# Altium integrated library Renesas Microcontroller R8C.IntLib: 628 symbols (part 1 of 33)
Pins are listed as number, name and electrical type; pins without a type are passive.

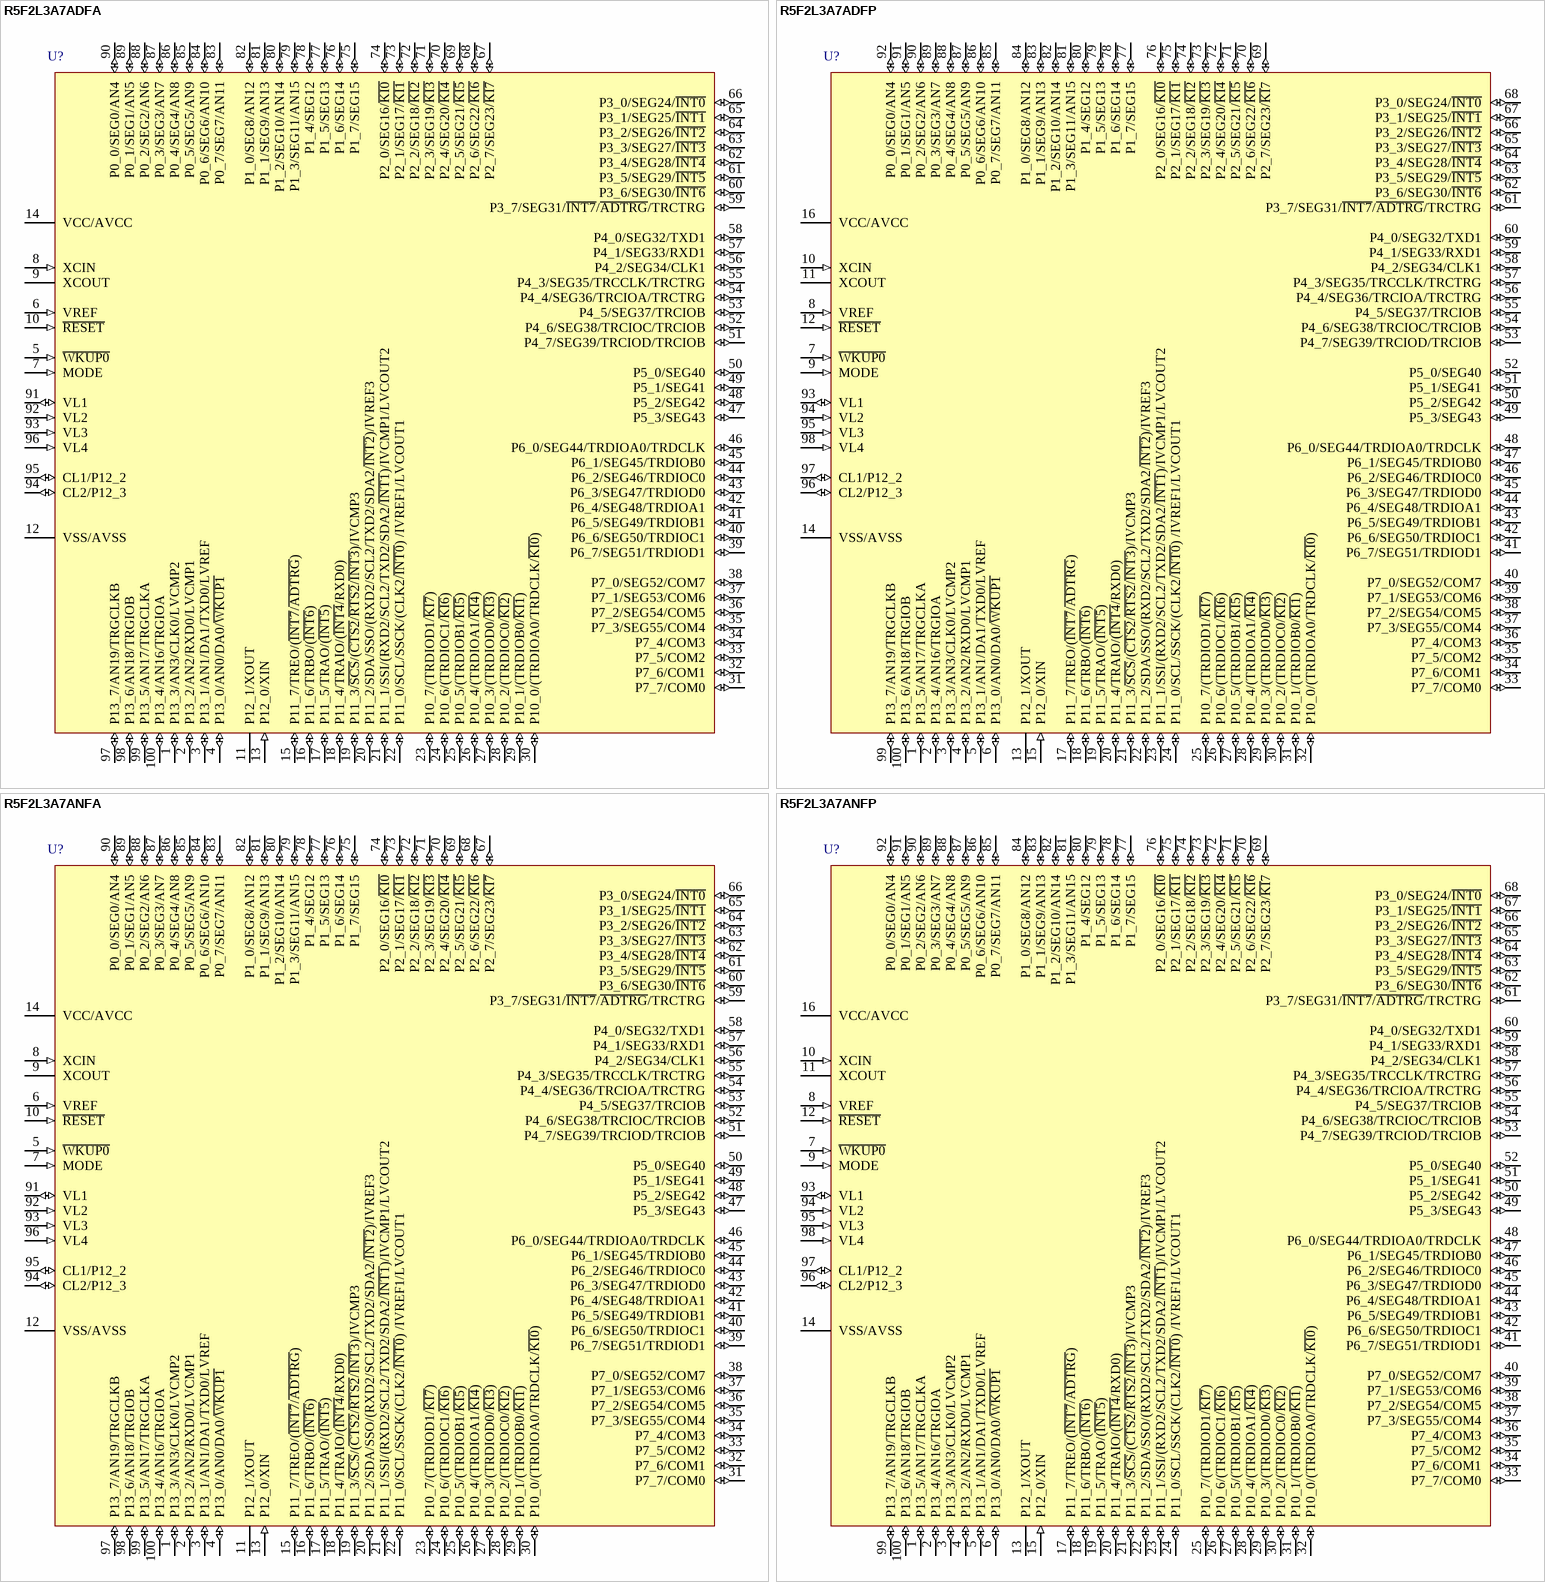
[diagram p0: symbols R5F2L3A7ADFA to R5F2L3A7ANFP]

## R5F2L3A7ADFA
designator U?
R8C/3AA Group Single Chip 16-Bit CMOS MCU, 48K ROM + 1K x4 Data Flash, 6K RAM, D Version; Published: 30-Oct-2009; DatasheetVersion: Rev.0.30, Jan-2009; PackageVersion: Nov-2006; PackageReference: PRQP0100JD-B; Publisher: Altium Limited; PackageDescription: 100-Pin Plastic Quad Flat Pack, 20 x 14 x 2.8 mm Body, 0.65 mm Pitch; Code_JEITA: P-QFP100-14x20-0.65; ComponentLink1Description: Manufacturer Link; ComponentLink1URL: http://sg.renesas.com/fmwk.jsp?cnt=r8c_family_landing.jsp&fp=/products/mpumcu/r8c_family/; ComponentLink2Description: Datasheet; ComponentLink2URL: http://documentation.renesas.com/eng/products/mpumcu/rej03b0243_r8cl35al35b_ds.pdf; ComponentLink3Description: Packaging Specification; ComponentLink3URL: http://sg.renesas.com/media/products/common_info/package/pdf/ic/code/prqp0100jd_b.pdf
footprint PRQP0100JD-B_N (QFP, 100-Leads, Body 20x14mm, Pitch 0.65mm, IPC Medium Density)
footprint PRQP0100JD-B_L (QFP, 100-Leads, Body 20x14mm, Pitch 0.65mm, IPC High Density)
footprint PRQP0100JD-B_M (QFP, 100-Leads, Body 20x14mm, Pitch 0.65mm, IPC Low Density)
pins: 1 P13_3/AN3/CLK0/LVCMP2 (io), 2 P13_2/AN2/RXD0/LVCMP1 (io), 3 P13_1/AN1/DA1/TXD0/LVREF (io), 4 P13_0/AN0/DA0/~{WKUP1} (io), 5 ~{WKUP0} (in), 6 VREF (in), 7 MODE (in), 8 XCIN (in), 9 XCOUT, 10 ~{RESET} (in), 11 P12_1/XOUT, 12 VSS/AVSS (power), 13 P12_0/XIN (in), 14 VCC/AVCC (power), 15 P11_7/TREO/(~{INT7}/~{ADTRG}) (io), 16 P11_6/TRBO/(~{INT6}) (io), 17 P11_5/TRAO/(~{INT5}) (io), 18 P11_4/TRAIO/(~{INT4}/RXD0) (io), 19 P11_3/~{SCS}/(~{CTS2}/~{RTS2}/~{INT3})/IVCMP3 (io), 20 P11_2/SDA/SSO/(RXD2/SCL2/TXD2/SDA2/~{INT2})/IVREF3 (io), 21 P11_1/SSI/(RXD2/SCL2/TXD2/SDA2/~{INT1})/IVCMP1/LVCOUT2 (io), 22 P11_0/SCL/SSCK/(CLK2/~{INT0}) /IVREF1/LVCOUT1 (io), 23 P10_7/(TRDIOD1/~{KI7}) (io), 24 P10_6/(TRDIOC1/~{KI6}) (io), 25 P10_5/(TRDIOB1/~{KI5}) (io), 26 P10_4/(TRDIOA1/~{KI4}) (io), 27 P10_3/(TRDIOD0/~{KI3}) (io), 28 P10_2/(TRDIOC0/~{KI2}) (io), 29 P10_1/(TRDIOB0/~{KI1}) (io), 30 P10_0/(TRDIOA0/TRDCLK/~{KI0}) (io), 31 P7_7/COM0 (io), 32 P7_6/COM1 (io), 33 P7_5/COM2 (io), 34 P7_4/COM3 (io), 35 P7_3/SEG55/COM4 (io), 36 P7_2/SEG54/COM5 (io), 37 P7_1/SEG53/COM6 (io), 38 P7_0/SEG52/COM7 (io), 39 P6_7/SEG51/TRDIOD1 (io), 40 P6_6/SEG50/TRDIOC1 (io), 41 P6_5/SEG49/TRDIOB1 (io), 42 P6_4/SEG48/TRDIOA1 (io), 43 P6_3/SEG47/TRDIOD0 (io), 44 P6_2/SEG46/TRDIOC0 (io), 45 P6_1/SEG45/TRDIOB0 (io), 46 P6_0/SEG44/TRDIOA0/TRDCLK (io), 47 P5_3/SEG43 (io), 48 P5_2/SEG42 (io), 49 P5_1/SEG41 (io), 50 P5_0/SEG40 (io), 51 P4_7/SEG39/TRCIOD/TRCIOB (io), 52 P4_6/SEG38/TRCIOC/TRCIOB (io), 53 P4_5/SEG37/TRCIOB (io), 54 P4_4/SEG36/TRCIOA/TRCTRG (io), 55 P4_3/SEG35/TRCCLK/TRCTRG (io), 56 P4_2/SEG34/CLK1 (io), 57 P4_1/SEG33/RXD1 (io), 58 P4_0/SEG32/TXD1 (io), 59 P3_7/SEG31/~{INT7}/~{ADTRG}/TRCTRG (io), 60 P3_6/SEG30/~{INT6} (io), 61 P3_5/SEG29/~{INT5} (io), 62 P3_4/SEG28/~{INT4} (io), 63 P3_3/SEG27/~{INT3} (io), 64 P3_2/SEG26/~{INT2} (io), 65 P3_1/SEG25/~{INT1} (io), 66 P3_0/SEG24/~{INT0} (io), 67 P2_7/SEG23/~{KI7} (io), 68 P2_6/SEG22/~{KI6} (io), 69 P2_5/SEG21/~{KI5} (io), 70 P2_4/SEG20/~{KI4} (io), 71 P2_3/SEG19/~{KI3} (io), 72 P2_2/SEG18/~{KI2} (io), 73 P2_1/SEG17/~{KI1} (io), 74 P2_0/SEG16/~{KI0} (io), 75 P1_7/SEG15 (io), 76 P1_6/SEG14 (io), 77 P1_5/SEG13 (io), 78 P1_4/SEG12 (io), 79 P1_3/SEG11/AN15 (io), 80 P1_2/SEG10/AN14 (io), 81 P1_1/SEG9/AN13 (io), 82 P1_0/SEG8/AN12 (io), 83 P0_7/SEG7/AN11 (io), 84 P0_6/SEG6/AN10 (io), 85 P0_5/SEG5/AN9 (io), 86 P0_4/SEG4/AN8 (io), 87 P0_3/SEG3/AN7 (io), 88 P0_2/SEG2/AN6 (io), 89 P0_1/SEG1/AN5 (io), 90 P0_0/SEG0/AN4 (io), 91 VL1 (io), 92 VL2 (in), 93 VL3 (in), 94 CL2/P12_3 (io), 95 CL1/P12_2 (io), 96 VL4 (in), 97 P13_7/AN19/TRGCLKB (io), 98 P13_6/AN18/TRGIOB (io), 99 P13_5/AN17/TRGCLKA (io), 100 P13_4/AN16/TRGIOA (io)

## R5F2L3A7ADFP
designator U?
R8C/3AA Group Single Chip 16-Bit CMOS MCU, 48K ROM + 1K x4 Data Flash, 6K RAM, D Version; Published: 30-Oct-2009; DatasheetVersion: Rev.0.30, Jan-2009; PackageVersion: Sep-2005; PackageReference: PLQP0100KB-A; Publisher: Altium Limited; PackageDescription: 100-Pin Plastic Low Profile QFP, 14 x 14 x 1.4 mm Body, 0.5 mm Pitch; Code_JEITA: P-LQFP100-14x14-0.50; Code_IPC: SQFP50P1600X1600-100; ComponentLink1Description: Manufacturer Link; ComponentLink1URL: http://sg.renesas.com/fmwk.jsp?cnt=r8c_family_landing.jsp&fp=/products/mpumcu/r8c_family/; ComponentLink2Description: Datasheet; ComponentLink2URL: http://documentation.renesas.com/eng/products/mpumcu/rej03b0243_r8cl35al35b_ds.pdf; ComponentLink3Description: Packaging Specification; ComponentLink3URL: http://sg.renesas.com/media/products/common_info/package/pdf/ic/code/plqp0100kb_a.pdf
footprint PLQP0100KB-A_N (Shrink QFP, 100-Leads, Body 14x14mm, Pitch 0.5mm, IPC Medium Density)
footprint PLQP0100KB-A_L (Shrink QFP, 100-Leads, Body 14x14mm, Pitch 0.5mm, IPC High Density)
footprint PLQP0100KB-A_M (Shrink QFP, 100-Leads, Body 14x14mm, Pitch 0.5mm, IPC Low Density)
pins: 1 P13_5/AN17/TRGCLKA (io), 2 P13_4/AN16/TRGIOA (io), 3 P13_3/AN3/CLK0/LVCMP2 (io), 4 P13_2/AN2/RXD0/LVCMP1 (io), 5 P13_1/AN1/DA1/TXD0/LVREF (io), 6 P13_0/AN0/DA0/~{WKUP1} (io), 7 ~{WKUP0} (in), 8 VREF (in), 9 MODE (in), 10 XCIN (in), 11 XCOUT, 12 ~{RESET} (in), 13 P12_1/XOUT, 14 VSS/AVSS (power), 15 P12_0/XIN (in), 16 VCC/AVCC (power), 17 P11_7/TREO/(~{INT7}/~{ADTRG}) (io), 18 P11_6/TRBO/(~{INT6}) (io), 19 P11_5/TRAO/(~{INT5}) (io), 20 P11_4/TRAIO/(~{INT4}/RXD0) (io), 21 P11_3/~{SCS}/(~{CTS2}/~{RTS2}/~{INT3})/IVCMP3 (io), 22 P11_2/SDA/SSO/(RXD2/SCL2/TXD2/SDA2/~{INT2})/IVREF3 (io), 23 P11_1/SSI/(RXD2/SCL2/TXD2/SDA2/~{INT1})/IVCMP1/LVCOUT2 (io), 24 P11_0/SCL/SSCK/(CLK2/~{INT0}) /IVREF1/LVCOUT1 (io), 25 P10_7/(TRDIOD1/~{KI7}) (io), 26 P10_6/(TRDIOC1/~{KI6}) (io), 27 P10_5/(TRDIOB1/~{KI5}) (io), 28 P10_4/(TRDIOA1/~{KI4}) (io), 29 P10_3/(TRDIOD0/~{KI3}) (io), 30 P10_2/(TRDIOC0/~{KI2}) (io), 31 P10_1/(TRDIOB0/~{KI1}) (io), 32 P10_0/(TRDIOA0/TRDCLK/~{KI0}) (io), 33 P7_7/COM0 (io), 34 P7_6/COM1 (io), 35 P7_5/COM2 (io), 36 P7_4/COM3 (io), 37 P7_3/SEG55/COM4 (io), 38 P7_2/SEG54/COM5 (io), 39 P7_1/SEG53/COM6 (io), 40 P7_0/SEG52/COM7 (io), 41 P6_7/SEG51/TRDIOD1 (io), 42 P6_6/SEG50/TRDIOC1 (io), 43 P6_5/SEG49/TRDIOB1 (io), 44 P6_4/SEG48/TRDIOA1 (io), 45 P6_3/SEG47/TRDIOD0 (io), 46 P6_2/SEG46/TRDIOC0 (io), 47 P6_1/SEG45/TRDIOB0 (io), 48 P6_0/SEG44/TRDIOA0/TRDCLK (io), 49 P5_3/SEG43 (io), 50 P5_2/SEG42 (io), 51 P5_1/SEG41 (io), 52 P5_0/SEG40 (io), 53 P4_7/SEG39/TRCIOD/TRCIOB (io), 54 P4_6/SEG38/TRCIOC/TRCIOB (io), 55 P4_5/SEG37/TRCIOB (io), 56 P4_4/SEG36/TRCIOA/TRCTRG (io), 57 P4_3/SEG35/TRCCLK/TRCTRG (io), 58 P4_2/SEG34/CLK1 (io), 59 P4_1/SEG33/RXD1 (io), 60 P4_0/SEG32/TXD1 (io), 61 P3_7/SEG31/~{INT7}/~{ADTRG}/TRCTRG (io), 62 P3_6/SEG30/~{INT6} (io), 63 P3_5/SEG29/~{INT5} (io), 64 P3_4/SEG28/~{INT4} (io), 65 P3_3/SEG27/~{INT3} (io), 66 P3_2/SEG26/~{INT2} (io), 67 P3_1/SEG25/~{INT1} (io), 68 P3_0/SEG24/~{INT0} (io), 69 P2_7/SEG23/~{K}~{I}7 (io), 70 P2_6/SEG22/~{KI6} (io), 71 P2_5/SEG21/~{KI5} (io), 72 P2_4/SEG20/~{KI4} (io), 73 P2_3/SEG19/~{KI3} (io), 74 P2_2/SEG18/~{KI2} (io), 75 P2_1/SEG17/~{KI1} (io), 76 P2_0/SEG16/~{KI0} (io), 77 P1_7/SEG15 (io), 78 P1_6/SEG14 (io), 79 P1_5/SEG13 (io), 80 P1_4/SEG12 (io), 81 P1_3/SEG11/AN15 (io), 82 P1_2/SEG10/AN14 (io), 83 P1_1/SEG9/AN13 (io), 84 P1_0/SEG8/AN12 (io), 85 P0_7/SEG7/AN11 (io), 86 P0_6/SEG6/AN10 (io), 87 P0_5/SEG5/AN9 (io), 88 P0_4/SEG4/AN8 (io), 89 P0_3/SEG3/AN7 (io), 90 P0_2/SEG2/AN6 (io), 91 P0_1/SEG1/AN5 (io), 92 P0_0/SEG0/AN4 (io), 93 VL1 (io), 94 VL2 (in), 95 VL3 (in), 96 CL2/P12_3 (io), 97 CL1/P12_2 (io), 98 VL4 (in), 99 P13_7/AN19/TRGCLKB (io), 100 P13_6/AN18/TRGIOB (io)

## R5F2L3A7ANFA
designator U?
R8C/3AA Group Single Chip 16-Bit CMOS MCU, 48K ROM + 1K x4 Data Flash, 6K RAM, N Version; Published: 30-Oct-2009; DatasheetVersion: Rev.0.30, Jan-2009; PackageVersion: Nov-2006; PackageReference: PRQP0100JD-B; Publisher: Altium Limited; PackageDescription: 100-Pin Plastic Quad Flat Pack, 20 x 14 x 2.8 mm Body, 0.65 mm Pitch; Code_JEITA: P-QFP100-14x20-0.65; ComponentLink1Description: Manufacturer Link; ComponentLink1URL: http://sg.renesas.com/fmwk.jsp?cnt=r8c_family_landing.jsp&fp=/products/mpumcu/r8c_family/; ComponentLink2Description: Datasheet; ComponentLink2URL: http://documentation.renesas.com/eng/products/mpumcu/rej03b0243_r8cl35al35b_ds.pdf; ComponentLink3Description: Packaging Specification; ComponentLink3URL: http://sg.renesas.com/media/products/common_info/package/pdf/ic/code/prqp0100jd_b.pdf
footprint PRQP0100JD-B_N (QFP, 100-Leads, Body 20x14mm, Pitch 0.65mm, IPC Medium Density)
footprint PRQP0100JD-B_L (QFP, 100-Leads, Body 20x14mm, Pitch 0.65mm, IPC High Density)
footprint PRQP0100JD-B_M (QFP, 100-Leads, Body 20x14mm, Pitch 0.65mm, IPC Low Density)
pins: 1 P13_3/AN3/CLK0/LVCMP2 (io), 2 P13_2/AN2/RXD0/LVCMP1 (io), 3 P13_1/AN1/DA1/TXD0/LVREF (io), 4 P13_0/AN0/DA0/~{WKUP1} (io), 5 ~{WKUP0} (in), 6 VREF (in), 7 MODE (in), 8 XCIN (in), 9 XCOUT, 10 ~{RESET} (in), 11 P12_1/XOUT, 12 VSS/AVSS (power), 13 P12_0/XIN (in), 14 VCC/AVCC (power), 15 P11_7/TREO/(~{INT7}/~{ADTRG}) (io), 16 P11_6/TRBO/(~{INT6}) (io), 17 P11_5/TRAO/(~{INT5}) (io), 18 P11_4/TRAIO/(~{INT4}/RXD0) (io), 19 P11_3/~{SCS}/(~{CTS2}/~{RTS2}/~{INT3})/IVCMP3 (io), 20 P11_2/SDA/SSO/(RXD2/SCL2/TXD2/SDA2/~{INT2})/IVREF3 (io), 21 P11_1/SSI/(RXD2/SCL2/TXD2/SDA2/~{INT1})/IVCMP1/LVCOUT2 (io), 22 P11_0/SCL/SSCK/(CLK2/~{INT0}) /IVREF1/LVCOUT1 (io), 23 P10_7/(TRDIOD1/~{KI7}) (io), 24 P10_6/(TRDIOC1/~{KI6}) (io), 25 P10_5/(TRDIOB1/~{KI5}) (io), 26 P10_4/(TRDIOA1/~{KI4}) (io), 27 P10_3/(TRDIOD0/~{KI3}) (io), 28 P10_2/(TRDIOC0/~{KI2}) (io), 29 P10_1/(TRDIOB0/~{KI1}) (io), 30 P10_0/(TRDIOA0/TRDCLK/~{KI0}) (io), 31 P7_7/COM0 (io), 32 P7_6/COM1 (io), 33 P7_5/COM2 (io), 34 P7_4/COM3 (io), 35 P7_3/SEG55/COM4 (io), 36 P7_2/SEG54/COM5 (io), 37 P7_1/SEG53/COM6 (io), 38 P7_0/SEG52/COM7 (io), 39 P6_7/SEG51/TRDIOD1 (io), 40 P6_6/SEG50/TRDIOC1 (io), 41 P6_5/SEG49/TRDIOB1 (io), 42 P6_4/SEG48/TRDIOA1 (io), 43 P6_3/SEG47/TRDIOD0 (io), 44 P6_2/SEG46/TRDIOC0 (io), 45 P6_1/SEG45/TRDIOB0 (io), 46 P6_0/SEG44/TRDIOA0/TRDCLK (io), 47 P5_3/SEG43 (io), 48 P5_2/SEG42 (io), 49 P5_1/SEG41 (io), 50 P5_0/SEG40 (io), 51 P4_7/SEG39/TRCIOD/TRCIOB (io), 52 P4_6/SEG38/TRCIOC/TRCIOB (io), 53 P4_5/SEG37/TRCIOB (io), 54 P4_4/SEG36/TRCIOA/TRCTRG (io), 55 P4_3/SEG35/TRCCLK/TRCTRG (io), 56 P4_2/SEG34/CLK1 (io), 57 P4_1/SEG33/RXD1 (io), 58 P4_0/SEG32/TXD1 (io), 59 P3_7/SEG31/~{INT7}/~{ADTRG}/TRCTRG (io), 60 P3_6/SEG30/~{INT6} (io), 61 P3_5/SEG29/~{INT5} (io), 62 P3_4/SEG28/~{INT4} (io), 63 P3_3/SEG27/~{INT3} (io), 64 P3_2/SEG26/~{INT2} (io), 65 P3_1/SEG25/~{INT1} (io), 66 P3_0/SEG24/~{INT0} (io), 67 P2_7/SEG23/~{KI7} (io), 68 P2_6/SEG22/~{KI6} (io), 69 P2_5/SEG21/~{KI5} (io), 70 P2_4/SEG20/~{KI4} (io), 71 P2_3/SEG19/~{KI3} (io), 72 P2_2/SEG18/~{KI2} (io), 73 P2_1/SEG17/~{KI1} (io), 74 P2_0/SEG16/~{KI0} (io), 75 P1_7/SEG15 (io), 76 P1_6/SEG14 (io), 77 P1_5/SEG13 (io), 78 P1_4/SEG12 (io), 79 P1_3/SEG11/AN15 (io), 80 P1_2/SEG10/AN14 (io), 81 P1_1/SEG9/AN13 (io), 82 P1_0/SEG8/AN12 (io), 83 P0_7/SEG7/AN11 (io), 84 P0_6/SEG6/AN10 (io), 85 P0_5/SEG5/AN9 (io), 86 P0_4/SEG4/AN8 (io), 87 P0_3/SEG3/AN7 (io), 88 P0_2/SEG2/AN6 (io), 89 P0_1/SEG1/AN5 (io), 90 P0_0/SEG0/AN4 (io), 91 VL1 (io), 92 VL2 (in), 93 VL3 (in), 94 CL2/P12_3 (io), 95 CL1/P12_2 (io), 96 VL4 (in), 97 P13_7/AN19/TRGCLKB (io), 98 P13_6/AN18/TRGIOB (io), 99 P13_5/AN17/TRGCLKA (io), 100 P13_4/AN16/TRGIOA (io)

## R5F2L3A7ANFP
designator U?
R8C/3AA Group Single Chip 16-Bit CMOS MCU, 48K ROM + 1K x4 Data Flash, 6K RAM, N Version; Published: 30-Oct-2009; DatasheetVersion: Rev.0.30, Jan-2009; PackageVersion: Sep-2005; PackageReference: PLQP0100KB-A; Publisher: Altium Limited; PackageDescription: 100-Pin Plastic Low Profile QFP, 14 x 14 x 1.4 mm Body, 0.5 mm Pitch; Code_JEITA: P-LQFP100-14x14-0.50; Code_IPC: SQFP50P1600X1600-100; ComponentLink1Description: Manufacturer Link; ComponentLink1URL: http://sg.renesas.com/fmwk.jsp?cnt=r8c_family_landing.jsp&fp=/products/mpumcu/r8c_family/; ComponentLink2Description: Datasheet; ComponentLink2URL: http://documentation.renesas.com/eng/products/mpumcu/rej03b0243_r8cl35al35b_ds.pdf; ComponentLink3Description: Packaging Specification; ComponentLink3URL: http://sg.renesas.com/media/products/common_info/package/pdf/ic/code/plqp0100kb_a.pdf
footprint PLQP0100KB-A_N (Shrink QFP, 100-Leads, Body 14x14mm, Pitch 0.5mm, IPC Medium Density)
footprint PLQP0100KB-A_L (Shrink QFP, 100-Leads, Body 14x14mm, Pitch 0.5mm, IPC High Density)
footprint PLQP0100KB-A_M (Shrink QFP, 100-Leads, Body 14x14mm, Pitch 0.5mm, IPC Low Density)
pins: 1 P13_5/AN17/TRGCLKA (io), 2 P13_4/AN16/TRGIOA (io), 3 P13_3/AN3/CLK0/LVCMP2 (io), 4 P13_2/AN2/RXD0/LVCMP1 (io), 5 P13_1/AN1/DA1/TXD0/LVREF (io), 6 P13_0/AN0/DA0/~{WKUP1} (io), 7 ~{WKUP0} (in), 8 VREF (in), 9 MODE (in), 10 XCIN (in), 11 XCOUT, 12 ~{RESET} (in), 13 P12_1/XOUT, 14 VSS/AVSS (power), 15 P12_0/XIN (in), 16 VCC/AVCC (power), 17 P11_7/TREO/(~{INT7}/~{ADTRG}) (io), 18 P11_6/TRBO/(~{INT6}) (io), 19 P11_5/TRAO/(~{INT5}) (io), 20 P11_4/TRAIO/(~{INT4}/RXD0) (io), 21 P11_3/~{SCS}/(~{CTS2}/~{RTS2}/~{INT3})/IVCMP3 (io), 22 P11_2/SDA/SSO/(RXD2/SCL2/TXD2/SDA2/~{INT2})/IVREF3 (io), 23 P11_1/SSI/(RXD2/SCL2/TXD2/SDA2/~{INT1})/IVCMP1/LVCOUT2 (io), 24 P11_0/SCL/SSCK/(CLK2/~{INT0}) /IVREF1/LVCOUT1 (io), 25 P10_7/(TRDIOD1/~{KI7}) (io), 26 P10_6/(TRDIOC1/~{KI6}) (io), 27 P10_5/(TRDIOB1/~{KI5}) (io), 28 P10_4/(TRDIOA1/~{KI4}) (io), 29 P10_3/(TRDIOD0/~{KI3}) (io), 30 P10_2/(TRDIOC0/~{KI2}) (io), 31 P10_1/(TRDIOB0/~{KI1}) (io), 32 P10_0/(TRDIOA0/TRDCLK/~{KI0}) (io), 33 P7_7/COM0 (io), 34 P7_6/COM1 (io), 35 P7_5/COM2 (io), 36 P7_4/COM3 (io), 37 P7_3/SEG55/COM4 (io), 38 P7_2/SEG54/COM5 (io), 39 P7_1/SEG53/COM6 (io), 40 P7_0/SEG52/COM7 (io), 41 P6_7/SEG51/TRDIOD1 (io), 42 P6_6/SEG50/TRDIOC1 (io), 43 P6_5/SEG49/TRDIOB1 (io), 44 P6_4/SEG48/TRDIOA1 (io), 45 P6_3/SEG47/TRDIOD0 (io), 46 P6_2/SEG46/TRDIOC0 (io), 47 P6_1/SEG45/TRDIOB0 (io), 48 P6_0/SEG44/TRDIOA0/TRDCLK (io), 49 P5_3/SEG43 (io), 50 P5_2/SEG42 (io), 51 P5_1/SEG41 (io), 52 P5_0/SEG40 (io), 53 P4_7/SEG39/TRCIOD/TRCIOB (io), 54 P4_6/SEG38/TRCIOC/TRCIOB (io), 55 P4_5/SEG37/TRCIOB (io), 56 P4_4/SEG36/TRCIOA/TRCTRG (io), 57 P4_3/SEG35/TRCCLK/TRCTRG (io), 58 P4_2/SEG34/CLK1 (io), 59 P4_1/SEG33/RXD1 (io), 60 P4_0/SEG32/TXD1 (io), 61 P3_7/SEG31/~{INT7}/~{ADTRG}/TRCTRG (io), 62 P3_6/SEG30/~{INT6} (io), 63 P3_5/SEG29/~{INT5} (io), 64 P3_4/SEG28/~{INT4} (io), 65 P3_3/SEG27/~{INT3} (io), 66 P3_2/SEG26/~{INT2} (io), 67 P3_1/SEG25/~{INT1} (io), 68 P3_0/SEG24/~{INT0} (io), 69 P2_7/SEG23/~{K}~{I}7 (io), 70 P2_6/SEG22/~{KI6} (io), 71 P2_5/SEG21/~{KI5} (io), 72 P2_4/SEG20/~{KI4} (io), 73 P2_3/SEG19/~{KI3} (io), 74 P2_2/SEG18/~{KI2} (io), 75 P2_1/SEG17/~{KI1} (io), 76 P2_0/SEG16/~{KI0} (io), 77 P1_7/SEG15 (io), 78 P1_6/SEG14 (io), 79 P1_5/SEG13 (io), 80 P1_4/SEG12 (io), 81 P1_3/SEG11/AN15 (io), 82 P1_2/SEG10/AN14 (io), 83 P1_1/SEG9/AN13 (io), 84 P1_0/SEG8/AN12 (io), 85 P0_7/SEG7/AN11 (io), 86 P0_6/SEG6/AN10 (io), 87 P0_5/SEG5/AN9 (io), 88 P0_4/SEG4/AN8 (io), 89 P0_3/SEG3/AN7 (io), 90 P0_2/SEG2/AN6 (io), 91 P0_1/SEG1/AN5 (io), 92 P0_0/SEG0/AN4 (io), 93 VL1 (io), 94 VL2 (in), 95 VL3 (in), 96 CL2/P12_3 (io), 97 CL1/P12_2 (io), 98 VL4 (in), 99 P13_7/AN19/TRGCLKB (io), 100 P13_6/AN18/TRGIOB (io)

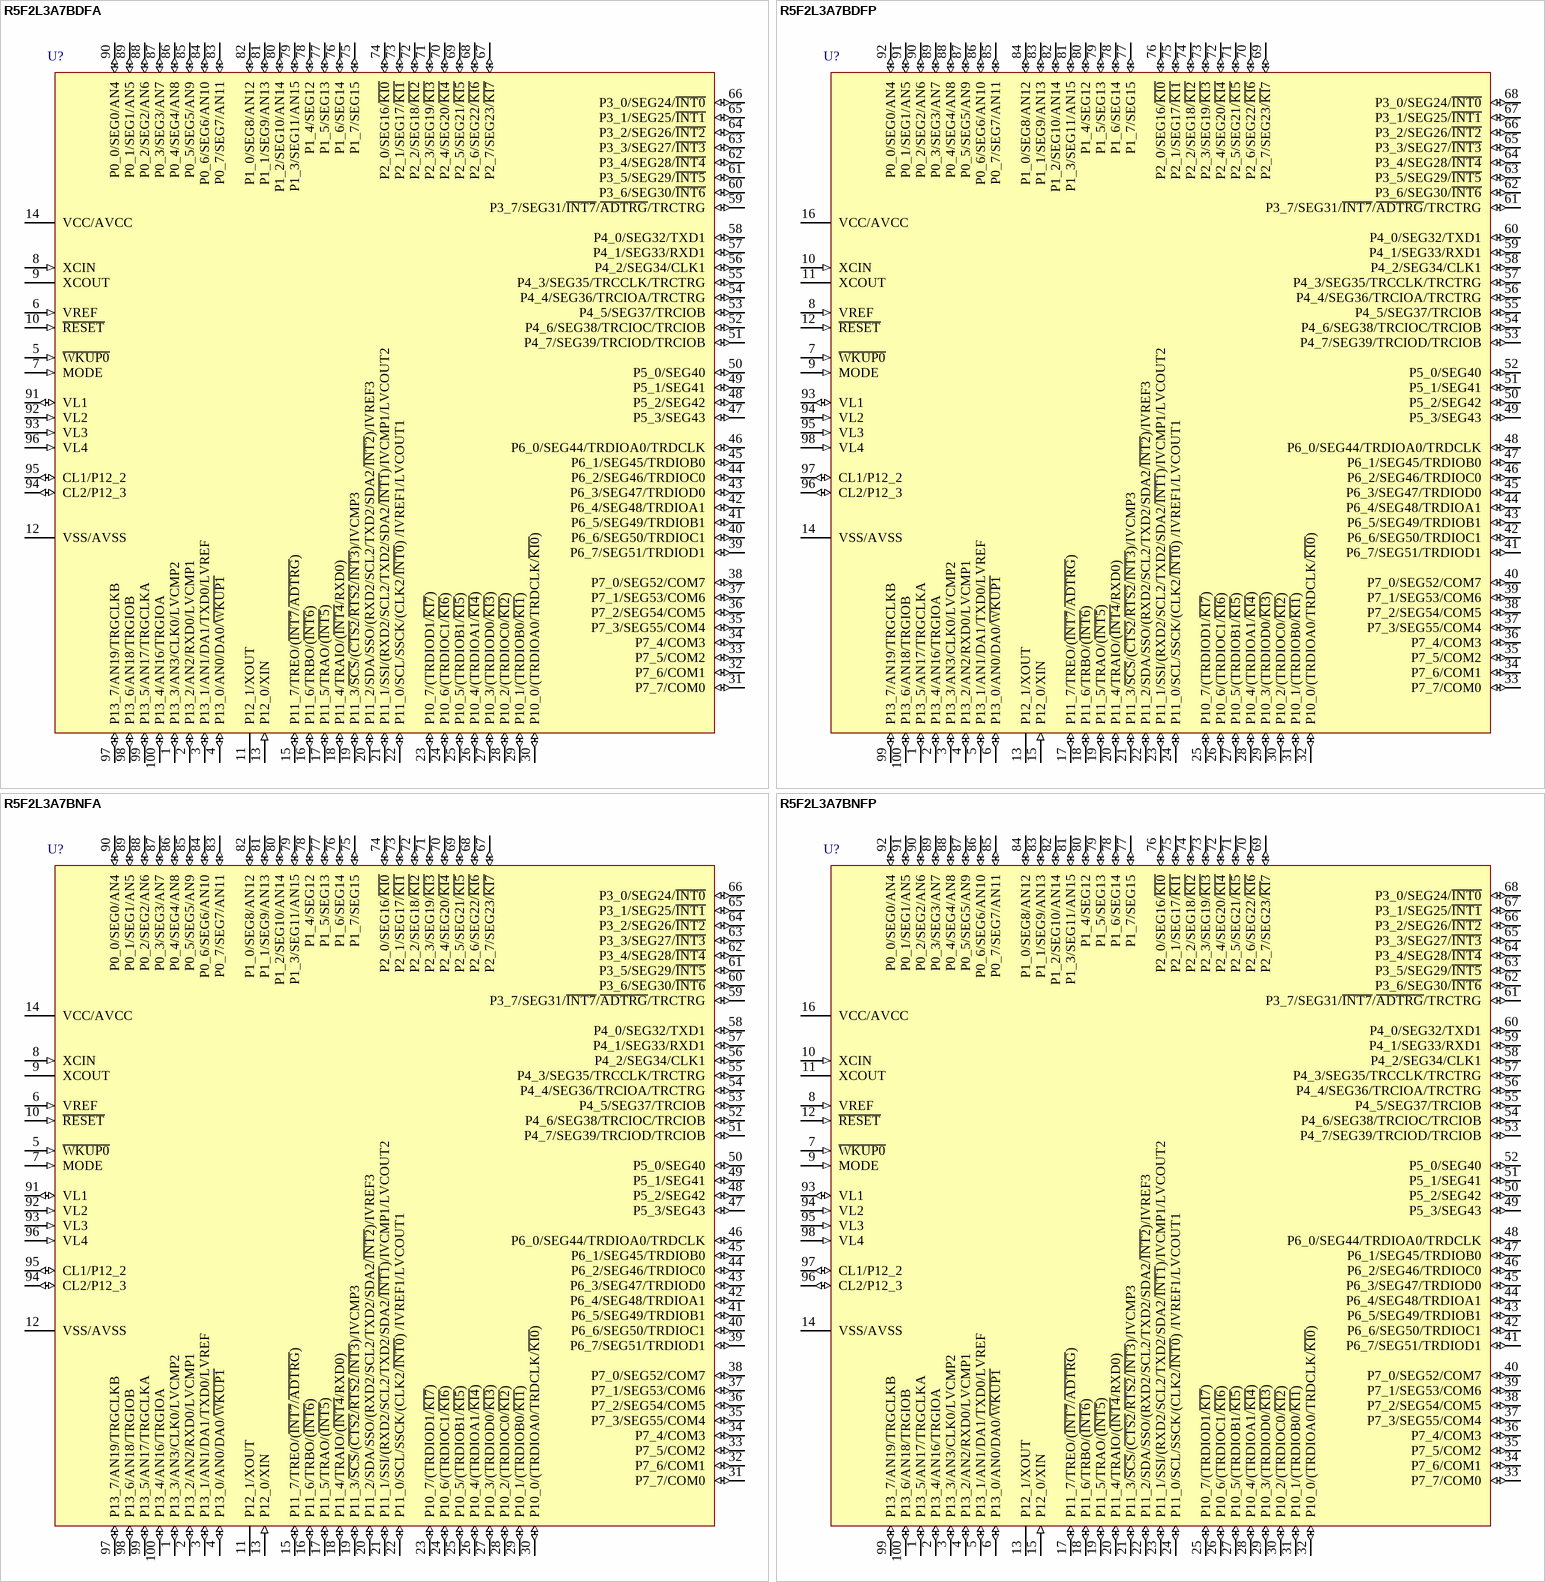
[diagram p1: symbols R5F2L3A7BDFA to R5F2L3A7BNFP]

## R5F2L3A7BDFA
designator U?
R8C/3AB Group Single Chip 16-Bit CMOS MCU, 48K ROM, 6K RAM, D Version; Published: 30-Oct-2009; DatasheetVersion: Rev.0.30, Jan-2009; PackageVersion: Nov-2006; PackageReference: PRQP0100JD-B; Publisher: Altium Limited; PackageDescription: 100-Pin Plastic Quad Flat Pack, 20 x 14 x 2.8 mm Body, 0.65 mm Pitch; Code_JEITA: P-QFP100-14x20-0.65; ComponentLink1Description: Manufacturer Link; ComponentLink1URL: http://sg.renesas.com/fmwk.jsp?cnt=r8c_family_landing.jsp&fp=/products/mpumcu/r8c_family/; ComponentLink2Description: Datasheet; ComponentLink2URL: http://documentation.renesas.com/eng/products/mpumcu/rej03b0243_r8cl35al35b_ds.pdf; ComponentLink3Description: Packaging Specification; ComponentLink3URL: http://sg.renesas.com/media/products/common_info/package/pdf/ic/code/prqp0100jd_b.pdf
footprint PRQP0100JD-B_N (QFP, 100-Leads, Body 20x14mm, Pitch 0.65mm, IPC Medium Density)
footprint PRQP0100JD-B_L (QFP, 100-Leads, Body 20x14mm, Pitch 0.65mm, IPC High Density)
footprint PRQP0100JD-B_M (QFP, 100-Leads, Body 20x14mm, Pitch 0.65mm, IPC Low Density)
pins: 1 P13_3/AN3/CLK0/LVCMP2 (io), 2 P13_2/AN2/RXD0/LVCMP1 (io), 3 P13_1/AN1/DA1/TXD0/LVREF (io), 4 P13_0/AN0/DA0/~{WKUP1} (io), 5 ~{WKUP0} (in), 6 VREF (in), 7 MODE (in), 8 XCIN (in), 9 XCOUT, 10 ~{RESET} (in), 11 P12_1/XOUT, 12 VSS/AVSS (power), 13 P12_0/XIN (in), 14 VCC/AVCC (power), 15 P11_7/TREO/(~{INT7}/~{ADTRG}) (io), 16 P11_6/TRBO/(~{INT6}) (io), 17 P11_5/TRAO/(~{INT5}) (io), 18 P11_4/TRAIO/(~{INT4}/RXD0) (io), 19 P11_3/~{SCS}/(~{CTS2}/~{RTS2}/~{INT3})/IVCMP3 (io), 20 P11_2/SDA/SSO/(RXD2/SCL2/TXD2/SDA2/~{INT2})/IVREF3 (io), 21 P11_1/SSI/(RXD2/SCL2/TXD2/SDA2/~{INT1})/IVCMP1/LVCOUT2 (io), 22 P11_0/SCL/SSCK/(CLK2/~{INT0}) /IVREF1/LVCOUT1 (io), 23 P10_7/(TRDIOD1/~{KI7}) (io), 24 P10_6/(TRDIOC1/~{KI6}) (io), 25 P10_5/(TRDIOB1/~{KI5}) (io), 26 P10_4/(TRDIOA1/~{KI4}) (io), 27 P10_3/(TRDIOD0/~{KI3}) (io), 28 P10_2/(TRDIOC0/~{KI2}) (io), 29 P10_1/(TRDIOB0/~{KI1}) (io), 30 P10_0/(TRDIOA0/TRDCLK/~{KI0}) (io), 31 P7_7/COM0 (io), 32 P7_6/COM1 (io), 33 P7_5/COM2 (io), 34 P7_4/COM3 (io), 35 P7_3/SEG55/COM4 (io), 36 P7_2/SEG54/COM5 (io), 37 P7_1/SEG53/COM6 (io), 38 P7_0/SEG52/COM7 (io), 39 P6_7/SEG51/TRDIOD1 (io), 40 P6_6/SEG50/TRDIOC1 (io), 41 P6_5/SEG49/TRDIOB1 (io), 42 P6_4/SEG48/TRDIOA1 (io), 43 P6_3/SEG47/TRDIOD0 (io), 44 P6_2/SEG46/TRDIOC0 (io), 45 P6_1/SEG45/TRDIOB0 (io), 46 P6_0/SEG44/TRDIOA0/TRDCLK (io), 47 P5_3/SEG43 (io), 48 P5_2/SEG42 (io), 49 P5_1/SEG41 (io), 50 P5_0/SEG40 (io), 51 P4_7/SEG39/TRCIOD/TRCIOB (io), 52 P4_6/SEG38/TRCIOC/TRCIOB (io), 53 P4_5/SEG37/TRCIOB (io), 54 P4_4/SEG36/TRCIOA/TRCTRG (io), 55 P4_3/SEG35/TRCCLK/TRCTRG (io), 56 P4_2/SEG34/CLK1 (io), 57 P4_1/SEG33/RXD1 (io), 58 P4_0/SEG32/TXD1 (io), 59 P3_7/SEG31/~{INT7}/~{ADTRG}/TRCTRG (io), 60 P3_6/SEG30/~{INT6} (io), 61 P3_5/SEG29/~{INT5} (io), 62 P3_4/SEG28/~{INT4} (io), 63 P3_3/SEG27/~{INT3} (io), 64 P3_2/SEG26/~{INT2} (io), 65 P3_1/SEG25/~{INT1} (io), 66 P3_0/SEG24/~{INT0} (io), 67 P2_7/SEG23/~{KI7} (io), 68 P2_6/SEG22/~{KI6} (io), 69 P2_5/SEG21/~{KI5} (io), 70 P2_4/SEG20/~{KI4} (io), 71 P2_3/SEG19/~{KI3} (io), 72 P2_2/SEG18/~{KI2} (io), 73 P2_1/SEG17/~{KI1} (io), 74 P2_0/SEG16/~{KI0} (io), 75 P1_7/SEG15 (io), 76 P1_6/SEG14 (io), 77 P1_5/SEG13 (io), 78 P1_4/SEG12 (io), 79 P1_3/SEG11/AN15 (io), 80 P1_2/SEG10/AN14 (io), 81 P1_1/SEG9/AN13 (io), 82 P1_0/SEG8/AN12 (io), 83 P0_7/SEG7/AN11 (io), 84 P0_6/SEG6/AN10 (io), 85 P0_5/SEG5/AN9 (io), 86 P0_4/SEG4/AN8 (io), 87 P0_3/SEG3/AN7 (io), 88 P0_2/SEG2/AN6 (io), 89 P0_1/SEG1/AN5 (io), 90 P0_0/SEG0/AN4 (io), 91 VL1 (io), 92 VL2 (in), 93 VL3 (in), 94 CL2/P12_3 (io), 95 CL1/P12_2 (io), 96 VL4 (in), 97 P13_7/AN19/TRGCLKB (io), 98 P13_6/AN18/TRGIOB (io), 99 P13_5/AN17/TRGCLKA (io), 100 P13_4/AN16/TRGIOA (io)

## R5F2L3A7BDFP
designator U?
R8C/3AB Group Single Chip 16-Bit CMOS MCU, 48K ROM, 6K RAM, D Version; Published: 30-Oct-2009; DatasheetVersion: Rev.0.30, Jan-2009; PackageVersion: Sep-2005; PackageReference: PLQP0100KB-A; Publisher: Altium Limited; PackageDescription: 100-Pin Plastic Low Profile QFP, 14 x 14 x 1.4 mm Body, 0.5 mm Pitch; Code_JEITA: P-LQFP100-14x14-0.50; Code_IPC: SQFP50P1600X1600-100; ComponentLink1Description: Manufacturer Link; ComponentLink1URL: http://sg.renesas.com/fmwk.jsp?cnt=r8c_family_landing.jsp&fp=/products/mpumcu/r8c_family/; ComponentLink2Description: Datasheet; ComponentLink2URL: http://documentation.renesas.com/eng/products/mpumcu/rej03b0243_r8cl35al35b_ds.pdf; ComponentLink3Description: Packaging Specification; ComponentLink3URL: http://sg.renesas.com/media/products/common_info/package/pdf/ic/code/plqp0100kb_a.pdf
footprint PLQP0100KB-A_N (Shrink QFP, 100-Leads, Body 14x14mm, Pitch 0.5mm, IPC Medium Density)
footprint PLQP0100KB-A_L (Shrink QFP, 100-Leads, Body 14x14mm, Pitch 0.5mm, IPC High Density)
footprint PLQP0100KB-A_M (Shrink QFP, 100-Leads, Body 14x14mm, Pitch 0.5mm, IPC Low Density)
pins: 1 P13_5/AN17/TRGCLKA (io), 2 P13_4/AN16/TRGIOA (io), 3 P13_3/AN3/CLK0/LVCMP2 (io), 4 P13_2/AN2/RXD0/LVCMP1 (io), 5 P13_1/AN1/DA1/TXD0/LVREF (io), 6 P13_0/AN0/DA0/~{WKUP1} (io), 7 ~{WKUP0} (in), 8 VREF (in), 9 MODE (in), 10 XCIN (in), 11 XCOUT, 12 ~{RESET} (in), 13 P12_1/XOUT, 14 VSS/AVSS (power), 15 P12_0/XIN (in), 16 VCC/AVCC (power), 17 P11_7/TREO/(~{INT7}/~{ADTRG}) (io), 18 P11_6/TRBO/(~{INT6}) (io), 19 P11_5/TRAO/(~{INT5}) (io), 20 P11_4/TRAIO/(~{INT4}/RXD0) (io), 21 P11_3/~{SCS}/(~{CTS2}/~{RTS2}/~{INT3})/IVCMP3 (io), 22 P11_2/SDA/SSO/(RXD2/SCL2/TXD2/SDA2/~{INT2})/IVREF3 (io), 23 P11_1/SSI/(RXD2/SCL2/TXD2/SDA2/~{INT1})/IVCMP1/LVCOUT2 (io), 24 P11_0/SCL/SSCK/(CLK2/~{INT0}) /IVREF1/LVCOUT1 (io), 25 P10_7/(TRDIOD1/~{KI7}) (io), 26 P10_6/(TRDIOC1/~{KI6}) (io), 27 P10_5/(TRDIOB1/~{KI5}) (io), 28 P10_4/(TRDIOA1/~{KI4}) (io), 29 P10_3/(TRDIOD0/~{KI3}) (io), 30 P10_2/(TRDIOC0/~{KI2}) (io), 31 P10_1/(TRDIOB0/~{KI1}) (io), 32 P10_0/(TRDIOA0/TRDCLK/~{KI0}) (io), 33 P7_7/COM0 (io), 34 P7_6/COM1 (io), 35 P7_5/COM2 (io), 36 P7_4/COM3 (io), 37 P7_3/SEG55/COM4 (io), 38 P7_2/SEG54/COM5 (io), 39 P7_1/SEG53/COM6 (io), 40 P7_0/SEG52/COM7 (io), 41 P6_7/SEG51/TRDIOD1 (io), 42 P6_6/SEG50/TRDIOC1 (io), 43 P6_5/SEG49/TRDIOB1 (io), 44 P6_4/SEG48/TRDIOA1 (io), 45 P6_3/SEG47/TRDIOD0 (io), 46 P6_2/SEG46/TRDIOC0 (io), 47 P6_1/SEG45/TRDIOB0 (io), 48 P6_0/SEG44/TRDIOA0/TRDCLK (io), 49 P5_3/SEG43 (io), 50 P5_2/SEG42 (io), 51 P5_1/SEG41 (io), 52 P5_0/SEG40 (io), 53 P4_7/SEG39/TRCIOD/TRCIOB (io), 54 P4_6/SEG38/TRCIOC/TRCIOB (io), 55 P4_5/SEG37/TRCIOB (io), 56 P4_4/SEG36/TRCIOA/TRCTRG (io), 57 P4_3/SEG35/TRCCLK/TRCTRG (io), 58 P4_2/SEG34/CLK1 (io), 59 P4_1/SEG33/RXD1 (io), 60 P4_0/SEG32/TXD1 (io), 61 P3_7/SEG31/~{INT7}/~{ADTRG}/TRCTRG (io), 62 P3_6/SEG30/~{INT6} (io), 63 P3_5/SEG29/~{INT5} (io), 64 P3_4/SEG28/~{INT4} (io), 65 P3_3/SEG27/~{INT3} (io), 66 P3_2/SEG26/~{INT2} (io), 67 P3_1/SEG25/~{INT1} (io), 68 P3_0/SEG24/~{INT0} (io), 69 P2_7/SEG23/~{K}~{I}7 (io), 70 P2_6/SEG22/~{KI6} (io), 71 P2_5/SEG21/~{KI5} (io), 72 P2_4/SEG20/~{KI4} (io), 73 P2_3/SEG19/~{KI3} (io), 74 P2_2/SEG18/~{KI2} (io), 75 P2_1/SEG17/~{KI1} (io), 76 P2_0/SEG16/~{KI0} (io), 77 P1_7/SEG15 (io), 78 P1_6/SEG14 (io), 79 P1_5/SEG13 (io), 80 P1_4/SEG12 (io), 81 P1_3/SEG11/AN15 (io), 82 P1_2/SEG10/AN14 (io), 83 P1_1/SEG9/AN13 (io), 84 P1_0/SEG8/AN12 (io), 85 P0_7/SEG7/AN11 (io), 86 P0_6/SEG6/AN10 (io), 87 P0_5/SEG5/AN9 (io), 88 P0_4/SEG4/AN8 (io), 89 P0_3/SEG3/AN7 (io), 90 P0_2/SEG2/AN6 (io), 91 P0_1/SEG1/AN5 (io), 92 P0_0/SEG0/AN4 (io), 93 VL1 (io), 94 VL2 (in), 95 VL3 (in), 96 CL2/P12_3 (io), 97 CL1/P12_2 (io), 98 VL4 (in), 99 P13_7/AN19/TRGCLKB (io), 100 P13_6/AN18/TRGIOB (io)

## R5F2L3A7BNFA
designator U?
R8C/3AB Group Single Chip 16-Bit CMOS MCU, 48K ROM, 6K RAM, N Version; Published: 30-Oct-2009; DatasheetVersion: Rev.0.30, Jan-2009; PackageVersion: Nov-2006; PackageReference: PRQP0100JD-B; Publisher: Altium Limited; PackageDescription: 100-Pin Plastic Quad Flat Pack, 20 x 14 x 2.8 mm Body, 0.65 mm Pitch; Code_JEITA: P-QFP100-14x20-0.65; ComponentLink1Description: Manufacturer Link; ComponentLink1URL: http://sg.renesas.com/fmwk.jsp?cnt=r8c_family_landing.jsp&fp=/products/mpumcu/r8c_family/; ComponentLink2Description: Datasheet; ComponentLink2URL: http://documentation.renesas.com/eng/products/mpumcu/rej03b0243_r8cl35al35b_ds.pdf; ComponentLink3Description: Packaging Specification; ComponentLink3URL: http://sg.renesas.com/media/products/common_info/package/pdf/ic/code/prqp0100jd_b.pdf
footprint PRQP0100JD-B_N (QFP, 100-Leads, Body 20x14mm, Pitch 0.65mm, IPC Medium Density)
footprint PRQP0100JD-B_L (QFP, 100-Leads, Body 20x14mm, Pitch 0.65mm, IPC High Density)
footprint PRQP0100JD-B_M (QFP, 100-Leads, Body 20x14mm, Pitch 0.65mm, IPC Low Density)
pins: 1 P13_3/AN3/CLK0/LVCMP2 (io), 2 P13_2/AN2/RXD0/LVCMP1 (io), 3 P13_1/AN1/DA1/TXD0/LVREF (io), 4 P13_0/AN0/DA0/~{WKUP1} (io), 5 ~{WKUP0} (in), 6 VREF (in), 7 MODE (in), 8 XCIN (in), 9 XCOUT, 10 ~{RESET} (in), 11 P12_1/XOUT, 12 VSS/AVSS (power), 13 P12_0/XIN (in), 14 VCC/AVCC (power), 15 P11_7/TREO/(~{INT7}/~{ADTRG}) (io), 16 P11_6/TRBO/(~{INT6}) (io), 17 P11_5/TRAO/(~{INT5}) (io), 18 P11_4/TRAIO/(~{INT4}/RXD0) (io), 19 P11_3/~{SCS}/(~{CTS2}/~{RTS2}/~{INT3})/IVCMP3 (io), 20 P11_2/SDA/SSO/(RXD2/SCL2/TXD2/SDA2/~{INT2})/IVREF3 (io), 21 P11_1/SSI/(RXD2/SCL2/TXD2/SDA2/~{INT1})/IVCMP1/LVCOUT2 (io), 22 P11_0/SCL/SSCK/(CLK2/~{INT0}) /IVREF1/LVCOUT1 (io), 23 P10_7/(TRDIOD1/~{KI7}) (io), 24 P10_6/(TRDIOC1/~{KI6}) (io), 25 P10_5/(TRDIOB1/~{KI5}) (io), 26 P10_4/(TRDIOA1/~{KI4}) (io), 27 P10_3/(TRDIOD0/~{KI3}) (io), 28 P10_2/(TRDIOC0/~{KI2}) (io), 29 P10_1/(TRDIOB0/~{KI1}) (io), 30 P10_0/(TRDIOA0/TRDCLK/~{KI0}) (io), 31 P7_7/COM0 (io), 32 P7_6/COM1 (io), 33 P7_5/COM2 (io), 34 P7_4/COM3 (io), 35 P7_3/SEG55/COM4 (io), 36 P7_2/SEG54/COM5 (io), 37 P7_1/SEG53/COM6 (io), 38 P7_0/SEG52/COM7 (io), 39 P6_7/SEG51/TRDIOD1 (io), 40 P6_6/SEG50/TRDIOC1 (io), 41 P6_5/SEG49/TRDIOB1 (io), 42 P6_4/SEG48/TRDIOA1 (io), 43 P6_3/SEG47/TRDIOD0 (io), 44 P6_2/SEG46/TRDIOC0 (io), 45 P6_1/SEG45/TRDIOB0 (io), 46 P6_0/SEG44/TRDIOA0/TRDCLK (io), 47 P5_3/SEG43 (io), 48 P5_2/SEG42 (io), 49 P5_1/SEG41 (io), 50 P5_0/SEG40 (io), 51 P4_7/SEG39/TRCIOD/TRCIOB (io), 52 P4_6/SEG38/TRCIOC/TRCIOB (io), 53 P4_5/SEG37/TRCIOB (io), 54 P4_4/SEG36/TRCIOA/TRCTRG (io), 55 P4_3/SEG35/TRCCLK/TRCTRG (io), 56 P4_2/SEG34/CLK1 (io), 57 P4_1/SEG33/RXD1 (io), 58 P4_0/SEG32/TXD1 (io), 59 P3_7/SEG31/~{INT7}/~{ADTRG}/TRCTRG (io), 60 P3_6/SEG30/~{INT6} (io), 61 P3_5/SEG29/~{INT5} (io), 62 P3_4/SEG28/~{INT4} (io), 63 P3_3/SEG27/~{INT3} (io), 64 P3_2/SEG26/~{INT2} (io), 65 P3_1/SEG25/~{INT1} (io), 66 P3_0/SEG24/~{INT0} (io), 67 P2_7/SEG23/~{KI7} (io), 68 P2_6/SEG22/~{KI6} (io), 69 P2_5/SEG21/~{KI5} (io), 70 P2_4/SEG20/~{KI4} (io), 71 P2_3/SEG19/~{KI3} (io), 72 P2_2/SEG18/~{KI2} (io), 73 P2_1/SEG17/~{KI1} (io), 74 P2_0/SEG16/~{KI0} (io), 75 P1_7/SEG15 (io), 76 P1_6/SEG14 (io), 77 P1_5/SEG13 (io), 78 P1_4/SEG12 (io), 79 P1_3/SEG11/AN15 (io), 80 P1_2/SEG10/AN14 (io), 81 P1_1/SEG9/AN13 (io), 82 P1_0/SEG8/AN12 (io), 83 P0_7/SEG7/AN11 (io), 84 P0_6/SEG6/AN10 (io), 85 P0_5/SEG5/AN9 (io), 86 P0_4/SEG4/AN8 (io), 87 P0_3/SEG3/AN7 (io), 88 P0_2/SEG2/AN6 (io), 89 P0_1/SEG1/AN5 (io), 90 P0_0/SEG0/AN4 (io), 91 VL1 (io), 92 VL2 (in), 93 VL3 (in), 94 CL2/P12_3 (io), 95 CL1/P12_2 (io), 96 VL4 (in), 97 P13_7/AN19/TRGCLKB (io), 98 P13_6/AN18/TRGIOB (io), 99 P13_5/AN17/TRGCLKA (io), 100 P13_4/AN16/TRGIOA (io)

## R5F2L3A7BNFP
designator U?
R8C/3AB Group Single Chip 16-Bit CMOS MCU, 48K ROM, 6K RAM, N Version; Published: 30-Oct-2009; DatasheetVersion: Rev.0.30, Jan-2009; PackageVersion: Sep-2005; PackageReference: PLQP0100KB-A; Publisher: Altium Limited; PackageDescription: 100-Pin Plastic Low Profile QFP, 14 x 14 x 1.4 mm Body, 0.5 mm Pitch; Code_JEITA: P-LQFP100-14x14-0.50; Code_IPC: SQFP50P1600X1600-100; ComponentLink1Description: Manufacturer Link; ComponentLink1URL: http://sg.renesas.com/fmwk.jsp?cnt=r8c_family_landing.jsp&fp=/products/mpumcu/r8c_family/; ComponentLink2Description: Datasheet; ComponentLink2URL: http://documentation.renesas.com/eng/products/mpumcu/rej03b0243_r8cl35al35b_ds.pdf; ComponentLink3Description: Packaging Specification; ComponentLink3URL: http://sg.renesas.com/media/products/common_info/package/pdf/ic/code/plqp0100kb_a.pdf
footprint PLQP0100KB-A_N (Shrink QFP, 100-Leads, Body 14x14mm, Pitch 0.5mm, IPC Medium Density)
footprint PLQP0100KB-A_L (Shrink QFP, 100-Leads, Body 14x14mm, Pitch 0.5mm, IPC High Density)
footprint PLQP0100KB-A_M (Shrink QFP, 100-Leads, Body 14x14mm, Pitch 0.5mm, IPC Low Density)
pins: 1 P13_5/AN17/TRGCLKA (io), 2 P13_4/AN16/TRGIOA (io), 3 P13_3/AN3/CLK0/LVCMP2 (io), 4 P13_2/AN2/RXD0/LVCMP1 (io), 5 P13_1/AN1/DA1/TXD0/LVREF (io), 6 P13_0/AN0/DA0/~{WKUP1} (io), 7 ~{WKUP0} (in), 8 VREF (in), 9 MODE (in), 10 XCIN (in), 11 XCOUT, 12 ~{RESET} (in), 13 P12_1/XOUT, 14 VSS/AVSS (power), 15 P12_0/XIN (in), 16 VCC/AVCC (power), 17 P11_7/TREO/(~{INT7}/~{ADTRG}) (io), 18 P11_6/TRBO/(~{INT6}) (io), 19 P11_5/TRAO/(~{INT5}) (io), 20 P11_4/TRAIO/(~{INT4}/RXD0) (io), 21 P11_3/~{SCS}/(~{CTS2}/~{RTS2}/~{INT3})/IVCMP3 (io), 22 P11_2/SDA/SSO/(RXD2/SCL2/TXD2/SDA2/~{INT2})/IVREF3 (io), 23 P11_1/SSI/(RXD2/SCL2/TXD2/SDA2/~{INT1})/IVCMP1/LVCOUT2 (io), 24 P11_0/SCL/SSCK/(CLK2/~{INT0}) /IVREF1/LVCOUT1 (io), 25 P10_7/(TRDIOD1/~{KI7}) (io), 26 P10_6/(TRDIOC1/~{KI6}) (io), 27 P10_5/(TRDIOB1/~{KI5}) (io), 28 P10_4/(TRDIOA1/~{KI4}) (io), 29 P10_3/(TRDIOD0/~{KI3}) (io), 30 P10_2/(TRDIOC0/~{KI2}) (io), 31 P10_1/(TRDIOB0/~{KI1}) (io), 32 P10_0/(TRDIOA0/TRDCLK/~{KI0}) (io), 33 P7_7/COM0 (io), 34 P7_6/COM1 (io), 35 P7_5/COM2 (io), 36 P7_4/COM3 (io), 37 P7_3/SEG55/COM4 (io), 38 P7_2/SEG54/COM5 (io), 39 P7_1/SEG53/COM6 (io), 40 P7_0/SEG52/COM7 (io), 41 P6_7/SEG51/TRDIOD1 (io), 42 P6_6/SEG50/TRDIOC1 (io), 43 P6_5/SEG49/TRDIOB1 (io), 44 P6_4/SEG48/TRDIOA1 (io), 45 P6_3/SEG47/TRDIOD0 (io), 46 P6_2/SEG46/TRDIOC0 (io), 47 P6_1/SEG45/TRDIOB0 (io), 48 P6_0/SEG44/TRDIOA0/TRDCLK (io), 49 P5_3/SEG43 (io), 50 P5_2/SEG42 (io), 51 P5_1/SEG41 (io), 52 P5_0/SEG40 (io), 53 P4_7/SEG39/TRCIOD/TRCIOB (io), 54 P4_6/SEG38/TRCIOC/TRCIOB (io), 55 P4_5/SEG37/TRCIOB (io), 56 P4_4/SEG36/TRCIOA/TRCTRG (io), 57 P4_3/SEG35/TRCCLK/TRCTRG (io), 58 P4_2/SEG34/CLK1 (io), 59 P4_1/SEG33/RXD1 (io), 60 P4_0/SEG32/TXD1 (io), 61 P3_7/SEG31/~{INT7}/~{ADTRG}/TRCTRG (io), 62 P3_6/SEG30/~{INT6} (io), 63 P3_5/SEG29/~{INT5} (io), 64 P3_4/SEG28/~{INT4} (io), 65 P3_3/SEG27/~{INT3} (io), 66 P3_2/SEG26/~{INT2} (io), 67 P3_1/SEG25/~{INT1} (io), 68 P3_0/SEG24/~{INT0} (io), 69 P2_7/SEG23/~{K}~{I}7 (io), 70 P2_6/SEG22/~{KI6} (io), 71 P2_5/SEG21/~{KI5} (io), 72 P2_4/SEG20/~{KI4} (io), 73 P2_3/SEG19/~{KI3} (io), 74 P2_2/SEG18/~{KI2} (io), 75 P2_1/SEG17/~{KI1} (io), 76 P2_0/SEG16/~{KI0} (io), 77 P1_7/SEG15 (io), 78 P1_6/SEG14 (io), 79 P1_5/SEG13 (io), 80 P1_4/SEG12 (io), 81 P1_3/SEG11/AN15 (io), 82 P1_2/SEG10/AN14 (io), 83 P1_1/SEG9/AN13 (io), 84 P1_0/SEG8/AN12 (io), 85 P0_7/SEG7/AN11 (io), 86 P0_6/SEG6/AN10 (io), 87 P0_5/SEG5/AN9 (io), 88 P0_4/SEG4/AN8 (io), 89 P0_3/SEG3/AN7 (io), 90 P0_2/SEG2/AN6 (io), 91 P0_1/SEG1/AN5 (io), 92 P0_0/SEG0/AN4 (io), 93 VL1 (io), 94 VL2 (in), 95 VL3 (in), 96 CL2/P12_3 (io), 97 CL1/P12_2 (io), 98 VL4 (in), 99 P13_7/AN19/TRGCLKB (io), 100 P13_6/AN18/TRGIOB (io)

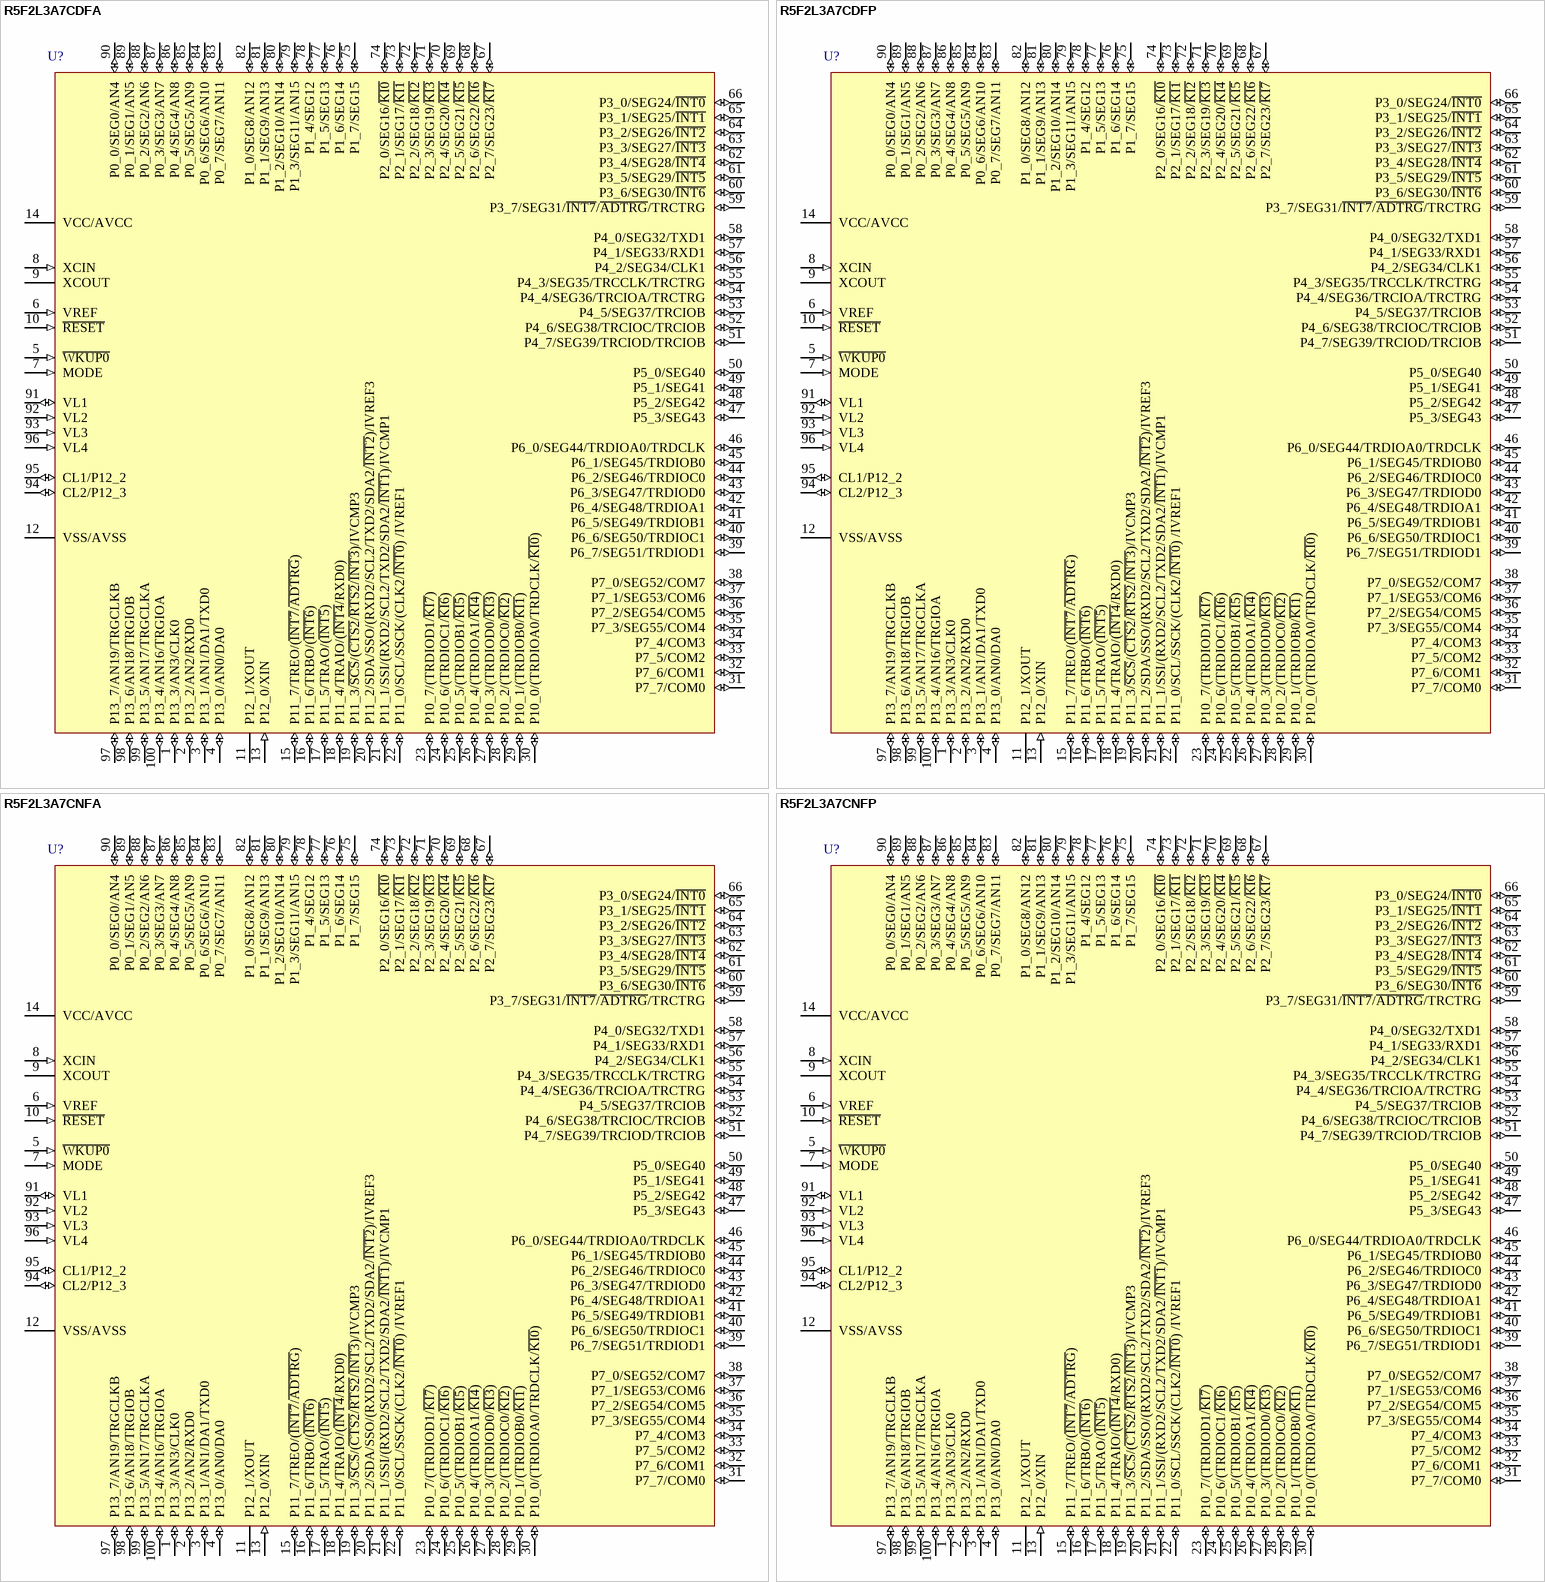
[diagram p2: symbols R5F2L3A7CDFA to R5F2L3A7CNFP]

## R5F2L3A7CDFA
designator U?
R8C/L3AC Group Single Chip 16-Bit CMOS MCU, 48K + 4K ROM, 6K RAM, D Version; Published: 17-Feb-2010; DatasheetVersion: Rev.0.10, Oct-2009; PackageVersion: Nov-2006; PackageReference: PRQP0100JD-B; Publisher: Altium Limited; PackageDescription: 100-Pin Plastic Quad Flat Pack, 20 x 14 x 2.8 mm Body, 0.65 mm Pitch; Code_JEITA: P-QFP100-14x20-0.65; ComponentLink1Description: Manufacturer Link; ComponentLink1URL: http://sg.renesas.com/fmwk.jsp?cnt=r8c_family_landing.jsp&fp=/products/mpumcu/r8c_family/; ComponentLink2Description: Datasheet; ComponentLink2URL: http://documentation.renesas.com/eng/products/mpumcu/rej03b0293_r8cl3acds.pdf; ComponentLink3Description: Packaging Specification; ComponentLink3URL: http://sg.renesas.com/media/products/common_info/package/pdf/ic/code/prqp0100jd_b.pdf
footprint PRQP0100JD-B_N (QFP, 100-Leads, Body 20x14mm, Pitch 0.65mm, IPC Medium Density)
footprint PRQP0100JD-B_L (QFP, 100-Leads, Body 20x14mm, Pitch 0.65mm, IPC High Density)
footprint PRQP0100JD-B_M (QFP, 100-Leads, Body 20x14mm, Pitch 0.65mm, IPC Low Density)
pins: 1 P13_3/AN3/CLK0 (io), 2 P13_2/AN2/RXD0 (io), 3 P13_1/AN1/DA1/TXD0 (io), 4 P13_0/AN0/DA0 (io), 5 ~{WKUP0} (in), 6 VREF (in), 7 MODE (in), 8 XCIN (in), 9 XCOUT, 10 ~{RESET} (in), 11 P12_1/XOUT, 12 VSS/AVSS (power), 13 P12_0/XIN (in), 14 VCC/AVCC (power), 15 P11_7/TREO/(~{INT7}/~{ADTRG}) (io), 16 P11_6/TRBO/(~{INT6}) (io), 17 P11_5/TRAO/(~{INT5}) (io), 18 P11_4/TRAIO/(~{INT4}/RXD0) (io), 19 P11_3/~{SCS}/(~{CTS2}/~{RTS2}/~{INT3})/IVCMP3 (io), 20 P11_2/SDA/SSO/(RXD2/SCL2/TXD2/SDA2/~{INT2})/IVREF3 (io), 21 P11_1/SSI/(RXD2/SCL2/TXD2/SDA2/~{INT1})/IVCMP1 (io), 22 P11_0/SCL/SSCK/(CLK2/~{INT0}) /IVREF1 (io), 23 P10_7/(TRDIOD1/~{KI7}) (io), 24 P10_6/(TRDIOC1/~{KI6}) (io), 25 P10_5/(TRDIOB1/~{KI5}) (io), 26 P10_4/(TRDIOA1/~{KI4}) (io), 27 P10_3/(TRDIOD0/~{KI3}) (io), 28 P10_2/(TRDIOC0/~{KI2}) (io), 29 P10_1/(TRDIOB0/~{KI1}) (io), 30 P10_0/(TRDIOA0/TRDCLK/~{KI0}) (io), 31 P7_7/COM0 (io), 32 P7_6/COM1 (io), 33 P7_5/COM2 (io), 34 P7_4/COM3 (io), 35 P7_3/SEG55/COM4 (io), 36 P7_2/SEG54/COM5 (io), 37 P7_1/SEG53/COM6 (io), 38 P7_0/SEG52/COM7 (io), 39 P6_7/SEG51/TRDIOD1 (io), 40 P6_6/SEG50/TRDIOC1 (io), 41 P6_5/SEG49/TRDIOB1 (io), 42 P6_4/SEG48/TRDIOA1 (io), 43 P6_3/SEG47/TRDIOD0 (io), 44 P6_2/SEG46/TRDIOC0 (io), 45 P6_1/SEG45/TRDIOB0 (io), 46 P6_0/SEG44/TRDIOA0/TRDCLK (io), 47 P5_3/SEG43 (io), 48 P5_2/SEG42 (io), 49 P5_1/SEG41 (io), 50 P5_0/SEG40 (io), 51 P4_7/SEG39/TRCIOD/TRCIOB (io), 52 P4_6/SEG38/TRCIOC/TRCIOB (io), 53 P4_5/SEG37/TRCIOB (io), 54 P4_4/SEG36/TRCIOA/TRCTRG (io), 55 P4_3/SEG35/TRCCLK/TRCTRG (io), 56 P4_2/SEG34/CLK1 (io), 57 P4_1/SEG33/RXD1 (io), 58 P4_0/SEG32/TXD1 (io), 59 P3_7/SEG31/~{INT7}/~{ADTRG}/TRCTRG (io), 60 P3_6/SEG30/~{INT6} (io), 61 P3_5/SEG29/~{INT5} (io), 62 P3_4/SEG28/~{INT4} (io), 63 P3_3/SEG27/~{INT3} (io), 64 P3_2/SEG26/~{INT2} (io), 65 P3_1/SEG25/~{INT1} (io), 66 P3_0/SEG24/~{INT0} (io), 67 P2_7/SEG23/~{KI7} (io), 68 P2_6/SEG22/~{KI6} (io), 69 P2_5/SEG21/~{KI5} (io), 70 P2_4/SEG20/~{KI4} (io), 71 P2_3/SEG19/~{KI3} (io), 72 P2_2/SEG18/~{KI2} (io), 73 P2_1/SEG17/~{KI1} (io), 74 P2_0/SEG16/~{KI0} (io), 75 P1_7/SEG15 (io), 76 P1_6/SEG14 (io), 77 P1_5/SEG13 (io), 78 P1_4/SEG12 (io), 79 P1_3/SEG11/AN15 (io), 80 P1_2/SEG10/AN14 (io), 81 P1_1/SEG9/AN13 (io), 82 P1_0/SEG8/AN12 (io), 83 P0_7/SEG7/AN11 (io), 84 P0_6/SEG6/AN10 (io), 85 P0_5/SEG5/AN9 (io), 86 P0_4/SEG4/AN8 (io), 87 P0_3/SEG3/AN7 (io), 88 P0_2/SEG2/AN6 (io), 89 P0_1/SEG1/AN5 (io), 90 P0_0/SEG0/AN4 (io), 91 VL1 (io), 92 VL2 (in), 93 VL3 (in), 94 CL2/P12_3 (io), 95 CL1/P12_2 (io), 96 VL4 (in), 97 P13_7/AN19/TRGCLKB (io), 98 P13_6/AN18/TRGIOB (io), 99 P13_5/AN17/TRGCLKA (io), 100 P13_4/AN16/TRGIOA (io)

## R5F2L3A7CDFP
designator U?
R8C/L3AC Group Single Chip 16-Bit CMOS MCU, 48K + 4K ROM, 6K RAM, D Version; Published: 17-Feb-2010; DatasheetVersion: Rev.0.10, Oct-2009; PackageVersion: Sep-2005; PackageReference: PLQP0100KB-A; Publisher: Altium Limited; PackageDescription: 100-Pin Plastic Low Profile QFP, 14 x 14 x 1.4 mm Body, 0.5 mm Pitch; Code_JEITA: P-LQFP100-14x14-0.50; Code_IPC: SQFP50P1600X1600-100; ComponentLink1Description: Manufacturer Link; ComponentLink1URL: http://sg.renesas.com/fmwk.jsp?cnt=r8c_family_landing.jsp&fp=/products/mpumcu/r8c_family/; ComponentLink2Description: Datasheet; ComponentLink2URL: http://documentation.renesas.com/eng/products/mpumcu/rej03b0293_r8cl3acds.pdf; ComponentLink3Description: Packaging Specification; ComponentLink3URL: http://sg.renesas.com/media/products/common_info/package/pdf/ic/code/plqp0100kb_a.pdf
footprint PLQP0100KB-A_N (Shrink QFP, 100-Leads, Body 14x14mm, Pitch 0.5mm, IPC Medium Density)
footprint PLQP0100KB-A_L (Shrink QFP, 100-Leads, Body 14x14mm, Pitch 0.5mm, IPC High Density)
footprint PLQP0100KB-A_M (Shrink QFP, 100-Leads, Body 14x14mm, Pitch 0.5mm, IPC Low Density)
pins: 1 P13_3/AN3/CLK0 (io), 2 P13_2/AN2/RXD0 (io), 3 P13_1/AN1/DA1/TXD0 (io), 4 P13_0/AN0/DA0 (io), 5 ~{WKUP0} (in), 6 VREF (in), 7 MODE (in), 8 XCIN (in), 9 XCOUT, 10 ~{RESET} (in), 11 P12_1/XOUT, 12 VSS/AVSS (power), 13 P12_0/XIN (in), 14 VCC/AVCC (power), 15 P11_7/TREO/(~{INT7}/~{ADTRG}) (io), 16 P11_6/TRBO/(~{INT6}) (io), 17 P11_5/TRAO/(~{INT5}) (io), 18 P11_4/TRAIO/(~{INT4}/RXD0) (io), 19 P11_3/~{SCS}/(~{CTS2}/~{RTS2}/~{INT3})/IVCMP3 (io), 20 P11_2/SDA/SSO/(RXD2/SCL2/TXD2/SDA2/~{INT2})/IVREF3 (io), 21 P11_1/SSI/(RXD2/SCL2/TXD2/SDA2/~{INT1})/IVCMP1 (io), 22 P11_0/SCL/SSCK/(CLK2/~{INT0}) /IVREF1 (io), 23 P10_7/(TRDIOD1/~{KI7}) (io), 24 P10_6/(TRDIOC1/~{KI6}) (io), 25 P10_5/(TRDIOB1/~{KI5}) (io), 26 P10_4/(TRDIOA1/~{KI4}) (io), 27 P10_3/(TRDIOD0/~{KI3}) (io), 28 P10_2/(TRDIOC0/~{KI2}) (io), 29 P10_1/(TRDIOB0/~{KI1}) (io), 30 P10_0/(TRDIOA0/TRDCLK/~{KI0}) (io), 31 P7_7/COM0 (io), 32 P7_6/COM1 (io), 33 P7_5/COM2 (io), 34 P7_4/COM3 (io), 35 P7_3/SEG55/COM4 (io), 36 P7_2/SEG54/COM5 (io), 37 P7_1/SEG53/COM6 (io), 38 P7_0/SEG52/COM7 (io), 39 P6_7/SEG51/TRDIOD1 (io), 40 P6_6/SEG50/TRDIOC1 (io), 41 P6_5/SEG49/TRDIOB1 (io), 42 P6_4/SEG48/TRDIOA1 (io), 43 P6_3/SEG47/TRDIOD0 (io), 44 P6_2/SEG46/TRDIOC0 (io), 45 P6_1/SEG45/TRDIOB0 (io), 46 P6_0/SEG44/TRDIOA0/TRDCLK (io), 47 P5_3/SEG43 (io), 48 P5_2/SEG42 (io), 49 P5_1/SEG41 (io), 50 P5_0/SEG40 (io), 51 P4_7/SEG39/TRCIOD/TRCIOB (io), 52 P4_6/SEG38/TRCIOC/TRCIOB (io), 53 P4_5/SEG37/TRCIOB (io), 54 P4_4/SEG36/TRCIOA/TRCTRG (io), 55 P4_3/SEG35/TRCCLK/TRCTRG (io), 56 P4_2/SEG34/CLK1 (io), 57 P4_1/SEG33/RXD1 (io), 58 P4_0/SEG32/TXD1 (io), 59 P3_7/SEG31/~{INT7}/~{ADTRG}/TRCTRG (io), 60 P3_6/SEG30/~{INT6} (io), 61 P3_5/SEG29/~{INT5} (io), 62 P3_4/SEG28/~{INT4} (io), 63 P3_3/SEG27/~{INT3} (io), 64 P3_2/SEG26/~{INT2} (io), 65 P3_1/SEG25/~{INT1} (io), 66 P3_0/SEG24/~{INT0} (io), 67 P2_7/SEG23/~{KI7} (io), 68 P2_6/SEG22/~{KI6} (io), 69 P2_5/SEG21/~{KI5} (io), 70 P2_4/SEG20/~{KI4} (io), 71 P2_3/SEG19/~{KI3} (io), 72 P2_2/SEG18/~{KI2} (io), 73 P2_1/SEG17/~{KI1} (io), 74 P2_0/SEG16/~{KI0} (io), 75 P1_7/SEG15 (io), 76 P1_6/SEG14 (io), 77 P1_5/SEG13 (io), 78 P1_4/SEG12 (io), 79 P1_3/SEG11/AN15 (io), 80 P1_2/SEG10/AN14 (io), 81 P1_1/SEG9/AN13 (io), 82 P1_0/SEG8/AN12 (io), 83 P0_7/SEG7/AN11 (io), 84 P0_6/SEG6/AN10 (io), 85 P0_5/SEG5/AN9 (io), 86 P0_4/SEG4/AN8 (io), 87 P0_3/SEG3/AN7 (io), 88 P0_2/SEG2/AN6 (io), 89 P0_1/SEG1/AN5 (io), 90 P0_0/SEG0/AN4 (io), 91 VL1 (io), 92 VL2 (in), 93 VL3 (in), 94 CL2/P12_3 (io), 95 CL1/P12_2 (io), 96 VL4 (in), 97 P13_7/AN19/TRGCLKB (io), 98 P13_6/AN18/TRGIOB (io), 99 P13_5/AN17/TRGCLKA (io), 100 P13_4/AN16/TRGIOA (io)

## R5F2L3A7CNFA
designator U?
R8C/L3AC Group Single Chip 16-Bit CMOS MCU, 48K + 4K ROM, 6K RAM, N Version; Published: 17-Feb-2010; DatasheetVersion: Rev.0.10, Oct-2009; PackageVersion: Nov-2006; PackageReference: PRQP0100JD-B; Publisher: Altium Limited; PackageDescription: 100-Pin Plastic Quad Flat Pack, 20 x 14 x 2.8 mm Body, 0.65 mm Pitch; Code_JEITA: P-QFP100-14x20-0.65; ComponentLink1Description: Manufacturer Link; ComponentLink1URL: http://sg.renesas.com/fmwk.jsp?cnt=r8c_family_landing.jsp&fp=/products/mpumcu/r8c_family/; ComponentLink2Description: Datasheet; ComponentLink2URL: http://documentation.renesas.com/eng/products/mpumcu/rej03b0293_r8cl3acds.pdf; ComponentLink3Description: Packaging Specification; ComponentLink3URL: http://sg.renesas.com/media/products/common_info/package/pdf/ic/code/prqp0100jd_b.pdf
footprint PRQP0100JD-B_N (QFP, 100-Leads, Body 20x14mm, Pitch 0.65mm, IPC Medium Density)
footprint PRQP0100JD-B_L (QFP, 100-Leads, Body 20x14mm, Pitch 0.65mm, IPC High Density)
footprint PRQP0100JD-B_M (QFP, 100-Leads, Body 20x14mm, Pitch 0.65mm, IPC Low Density)
pins: 1 P13_3/AN3/CLK0 (io), 2 P13_2/AN2/RXD0 (io), 3 P13_1/AN1/DA1/TXD0 (io), 4 P13_0/AN0/DA0 (io), 5 ~{WKUP0} (in), 6 VREF (in), 7 MODE (in), 8 XCIN (in), 9 XCOUT, 10 ~{RESET} (in), 11 P12_1/XOUT, 12 VSS/AVSS (power), 13 P12_0/XIN (in), 14 VCC/AVCC (power), 15 P11_7/TREO/(~{INT7}/~{ADTRG}) (io), 16 P11_6/TRBO/(~{INT6}) (io), 17 P11_5/TRAO/(~{INT5}) (io), 18 P11_4/TRAIO/(~{INT4}/RXD0) (io), 19 P11_3/~{SCS}/(~{CTS2}/~{RTS2}/~{INT3})/IVCMP3 (io), 20 P11_2/SDA/SSO/(RXD2/SCL2/TXD2/SDA2/~{INT2})/IVREF3 (io), 21 P11_1/SSI/(RXD2/SCL2/TXD2/SDA2/~{INT1})/IVCMP1 (io), 22 P11_0/SCL/SSCK/(CLK2/~{INT0}) /IVREF1 (io), 23 P10_7/(TRDIOD1/~{KI7}) (io), 24 P10_6/(TRDIOC1/~{KI6}) (io), 25 P10_5/(TRDIOB1/~{KI5}) (io), 26 P10_4/(TRDIOA1/~{KI4}) (io), 27 P10_3/(TRDIOD0/~{KI3}) (io), 28 P10_2/(TRDIOC0/~{KI2}) (io), 29 P10_1/(TRDIOB0/~{KI1}) (io), 30 P10_0/(TRDIOA0/TRDCLK/~{KI0}) (io), 31 P7_7/COM0 (io), 32 P7_6/COM1 (io), 33 P7_5/COM2 (io), 34 P7_4/COM3 (io), 35 P7_3/SEG55/COM4 (io), 36 P7_2/SEG54/COM5 (io), 37 P7_1/SEG53/COM6 (io), 38 P7_0/SEG52/COM7 (io), 39 P6_7/SEG51/TRDIOD1 (io), 40 P6_6/SEG50/TRDIOC1 (io), 41 P6_5/SEG49/TRDIOB1 (io), 42 P6_4/SEG48/TRDIOA1 (io), 43 P6_3/SEG47/TRDIOD0 (io), 44 P6_2/SEG46/TRDIOC0 (io), 45 P6_1/SEG45/TRDIOB0 (io), 46 P6_0/SEG44/TRDIOA0/TRDCLK (io), 47 P5_3/SEG43 (io), 48 P5_2/SEG42 (io), 49 P5_1/SEG41 (io), 50 P5_0/SEG40 (io), 51 P4_7/SEG39/TRCIOD/TRCIOB (io), 52 P4_6/SEG38/TRCIOC/TRCIOB (io), 53 P4_5/SEG37/TRCIOB (io), 54 P4_4/SEG36/TRCIOA/TRCTRG (io), 55 P4_3/SEG35/TRCCLK/TRCTRG (io), 56 P4_2/SEG34/CLK1 (io), 57 P4_1/SEG33/RXD1 (io), 58 P4_0/SEG32/TXD1 (io), 59 P3_7/SEG31/~{INT7}/~{ADTRG}/TRCTRG (io), 60 P3_6/SEG30/~{INT6} (io), 61 P3_5/SEG29/~{INT5} (io), 62 P3_4/SEG28/~{INT4} (io), 63 P3_3/SEG27/~{INT3} (io), 64 P3_2/SEG26/~{INT2} (io), 65 P3_1/SEG25/~{INT1} (io), 66 P3_0/SEG24/~{INT0} (io), 67 P2_7/SEG23/~{KI7} (io), 68 P2_6/SEG22/~{KI6} (io), 69 P2_5/SEG21/~{KI5} (io), 70 P2_4/SEG20/~{KI4} (io), 71 P2_3/SEG19/~{KI3} (io), 72 P2_2/SEG18/~{KI2} (io), 73 P2_1/SEG17/~{KI1} (io), 74 P2_0/SEG16/~{KI0} (io), 75 P1_7/SEG15 (io), 76 P1_6/SEG14 (io), 77 P1_5/SEG13 (io), 78 P1_4/SEG12 (io), 79 P1_3/SEG11/AN15 (io), 80 P1_2/SEG10/AN14 (io), 81 P1_1/SEG9/AN13 (io), 82 P1_0/SEG8/AN12 (io), 83 P0_7/SEG7/AN11 (io), 84 P0_6/SEG6/AN10 (io), 85 P0_5/SEG5/AN9 (io), 86 P0_4/SEG4/AN8 (io), 87 P0_3/SEG3/AN7 (io), 88 P0_2/SEG2/AN6 (io), 89 P0_1/SEG1/AN5 (io), 90 P0_0/SEG0/AN4 (io), 91 VL1 (io), 92 VL2 (in), 93 VL3 (in), 94 CL2/P12_3 (io), 95 CL1/P12_2 (io), 96 VL4 (in), 97 P13_7/AN19/TRGCLKB (io), 98 P13_6/AN18/TRGIOB (io), 99 P13_5/AN17/TRGCLKA (io), 100 P13_4/AN16/TRGIOA (io)

## R5F2L3A7CNFP
designator U?
R8C/L3AC Group Single Chip 16-Bit CMOS MCU, 48K + 4K ROM, 6K RAM, N Version; Published: 17-Feb-2010; DatasheetVersion: Rev.0.10, Oct-2009; PackageVersion: Sep-2005; PackageReference: PLQP0100KB-A; Publisher: Altium Limited; PackageDescription: 100-Pin Plastic Low Profile QFP, 14 x 14 x 1.4 mm Body, 0.5 mm Pitch; Code_JEITA: P-LQFP100-14x14-0.50; Code_IPC: SQFP50P1600X1600-100; ComponentLink1Description: Manufacturer Link; ComponentLink1URL: http://sg.renesas.com/fmwk.jsp?cnt=r8c_family_landing.jsp&fp=/products/mpumcu/r8c_family/; ComponentLink2Description: Datasheet; ComponentLink2URL: http://documentation.renesas.com/eng/products/mpumcu/rej03b0293_r8cl3acds.pdf; ComponentLink3Description: Packaging Specification; ComponentLink3URL: http://sg.renesas.com/media/products/common_info/package/pdf/ic/code/plqp0100kb_a.pdf
footprint PLQP0100KB-A_N (Shrink QFP, 100-Leads, Body 14x14mm, Pitch 0.5mm, IPC Medium Density)
footprint PLQP0100KB-A_L (Shrink QFP, 100-Leads, Body 14x14mm, Pitch 0.5mm, IPC High Density)
footprint PLQP0100KB-A_M (Shrink QFP, 100-Leads, Body 14x14mm, Pitch 0.5mm, IPC Low Density)
pins: 1 P13_3/AN3/CLK0 (io), 2 P13_2/AN2/RXD0 (io), 3 P13_1/AN1/DA1/TXD0 (io), 4 P13_0/AN0/DA0 (io), 5 ~{WKUP0} (in), 6 VREF (in), 7 MODE (in), 8 XCIN (in), 9 XCOUT, 10 ~{RESET} (in), 11 P12_1/XOUT, 12 VSS/AVSS (power), 13 P12_0/XIN (in), 14 VCC/AVCC (power), 15 P11_7/TREO/(~{INT7}/~{ADTRG}) (io), 16 P11_6/TRBO/(~{INT6}) (io), 17 P11_5/TRAO/(~{INT5}) (io), 18 P11_4/TRAIO/(~{INT4}/RXD0) (io), 19 P11_3/~{SCS}/(~{CTS2}/~{RTS2}/~{INT3})/IVCMP3 (io), 20 P11_2/SDA/SSO/(RXD2/SCL2/TXD2/SDA2/~{INT2})/IVREF3 (io), 21 P11_1/SSI/(RXD2/SCL2/TXD2/SDA2/~{INT1})/IVCMP1 (io), 22 P11_0/SCL/SSCK/(CLK2/~{INT0}) /IVREF1 (io), 23 P10_7/(TRDIOD1/~{KI7}) (io), 24 P10_6/(TRDIOC1/~{KI6}) (io), 25 P10_5/(TRDIOB1/~{KI5}) (io), 26 P10_4/(TRDIOA1/~{KI4}) (io), 27 P10_3/(TRDIOD0/~{KI3}) (io), 28 P10_2/(TRDIOC0/~{KI2}) (io), 29 P10_1/(TRDIOB0/~{KI1}) (io), 30 P10_0/(TRDIOA0/TRDCLK/~{KI0}) (io), 31 P7_7/COM0 (io), 32 P7_6/COM1 (io), 33 P7_5/COM2 (io), 34 P7_4/COM3 (io), 35 P7_3/SEG55/COM4 (io), 36 P7_2/SEG54/COM5 (io), 37 P7_1/SEG53/COM6 (io), 38 P7_0/SEG52/COM7 (io), 39 P6_7/SEG51/TRDIOD1 (io), 40 P6_6/SEG50/TRDIOC1 (io), 41 P6_5/SEG49/TRDIOB1 (io), 42 P6_4/SEG48/TRDIOA1 (io), 43 P6_3/SEG47/TRDIOD0 (io), 44 P6_2/SEG46/TRDIOC0 (io), 45 P6_1/SEG45/TRDIOB0 (io), 46 P6_0/SEG44/TRDIOA0/TRDCLK (io), 47 P5_3/SEG43 (io), 48 P5_2/SEG42 (io), 49 P5_1/SEG41 (io), 50 P5_0/SEG40 (io), 51 P4_7/SEG39/TRCIOD/TRCIOB (io), 52 P4_6/SEG38/TRCIOC/TRCIOB (io), 53 P4_5/SEG37/TRCIOB (io), 54 P4_4/SEG36/TRCIOA/TRCTRG (io), 55 P4_3/SEG35/TRCCLK/TRCTRG (io), 56 P4_2/SEG34/CLK1 (io), 57 P4_1/SEG33/RXD1 (io), 58 P4_0/SEG32/TXD1 (io), 59 P3_7/SEG31/~{INT7}/~{ADTRG}/TRCTRG (io), 60 P3_6/SEG30/~{INT6} (io), 61 P3_5/SEG29/~{INT5} (io), 62 P3_4/SEG28/~{INT4} (io), 63 P3_3/SEG27/~{INT3} (io), 64 P3_2/SEG26/~{INT2} (io), 65 P3_1/SEG25/~{INT1} (io), 66 P3_0/SEG24/~{INT0} (io), 67 P2_7/SEG23/~{KI7} (io), 68 P2_6/SEG22/~{KI6} (io), 69 P2_5/SEG21/~{KI5} (io), 70 P2_4/SEG20/~{KI4} (io), 71 P2_3/SEG19/~{KI3} (io), 72 P2_2/SEG18/~{KI2} (io), 73 P2_1/SEG17/~{KI1} (io), 74 P2_0/SEG16/~{KI0} (io), 75 P1_7/SEG15 (io), 76 P1_6/SEG14 (io), 77 P1_5/SEG13 (io), 78 P1_4/SEG12 (io), 79 P1_3/SEG11/AN15 (io), 80 P1_2/SEG10/AN14 (io), 81 P1_1/SEG9/AN13 (io), 82 P1_0/SEG8/AN12 (io), 83 P0_7/SEG7/AN11 (io), 84 P0_6/SEG6/AN10 (io), 85 P0_5/SEG5/AN9 (io), 86 P0_4/SEG4/AN8 (io), 87 P0_3/SEG3/AN7 (io), 88 P0_2/SEG2/AN6 (io), 89 P0_1/SEG1/AN5 (io), 90 P0_0/SEG0/AN4 (io), 91 VL1 (io), 92 VL2 (in), 93 VL3 (in), 94 CL2/P12_3 (io), 95 CL1/P12_2 (io), 96 VL4 (in), 97 P13_7/AN19/TRGCLKB (io), 98 P13_6/AN18/TRGIOB (io), 99 P13_5/AN17/TRGCLKA (io), 100 P13_4/AN16/TRGIOA (io)

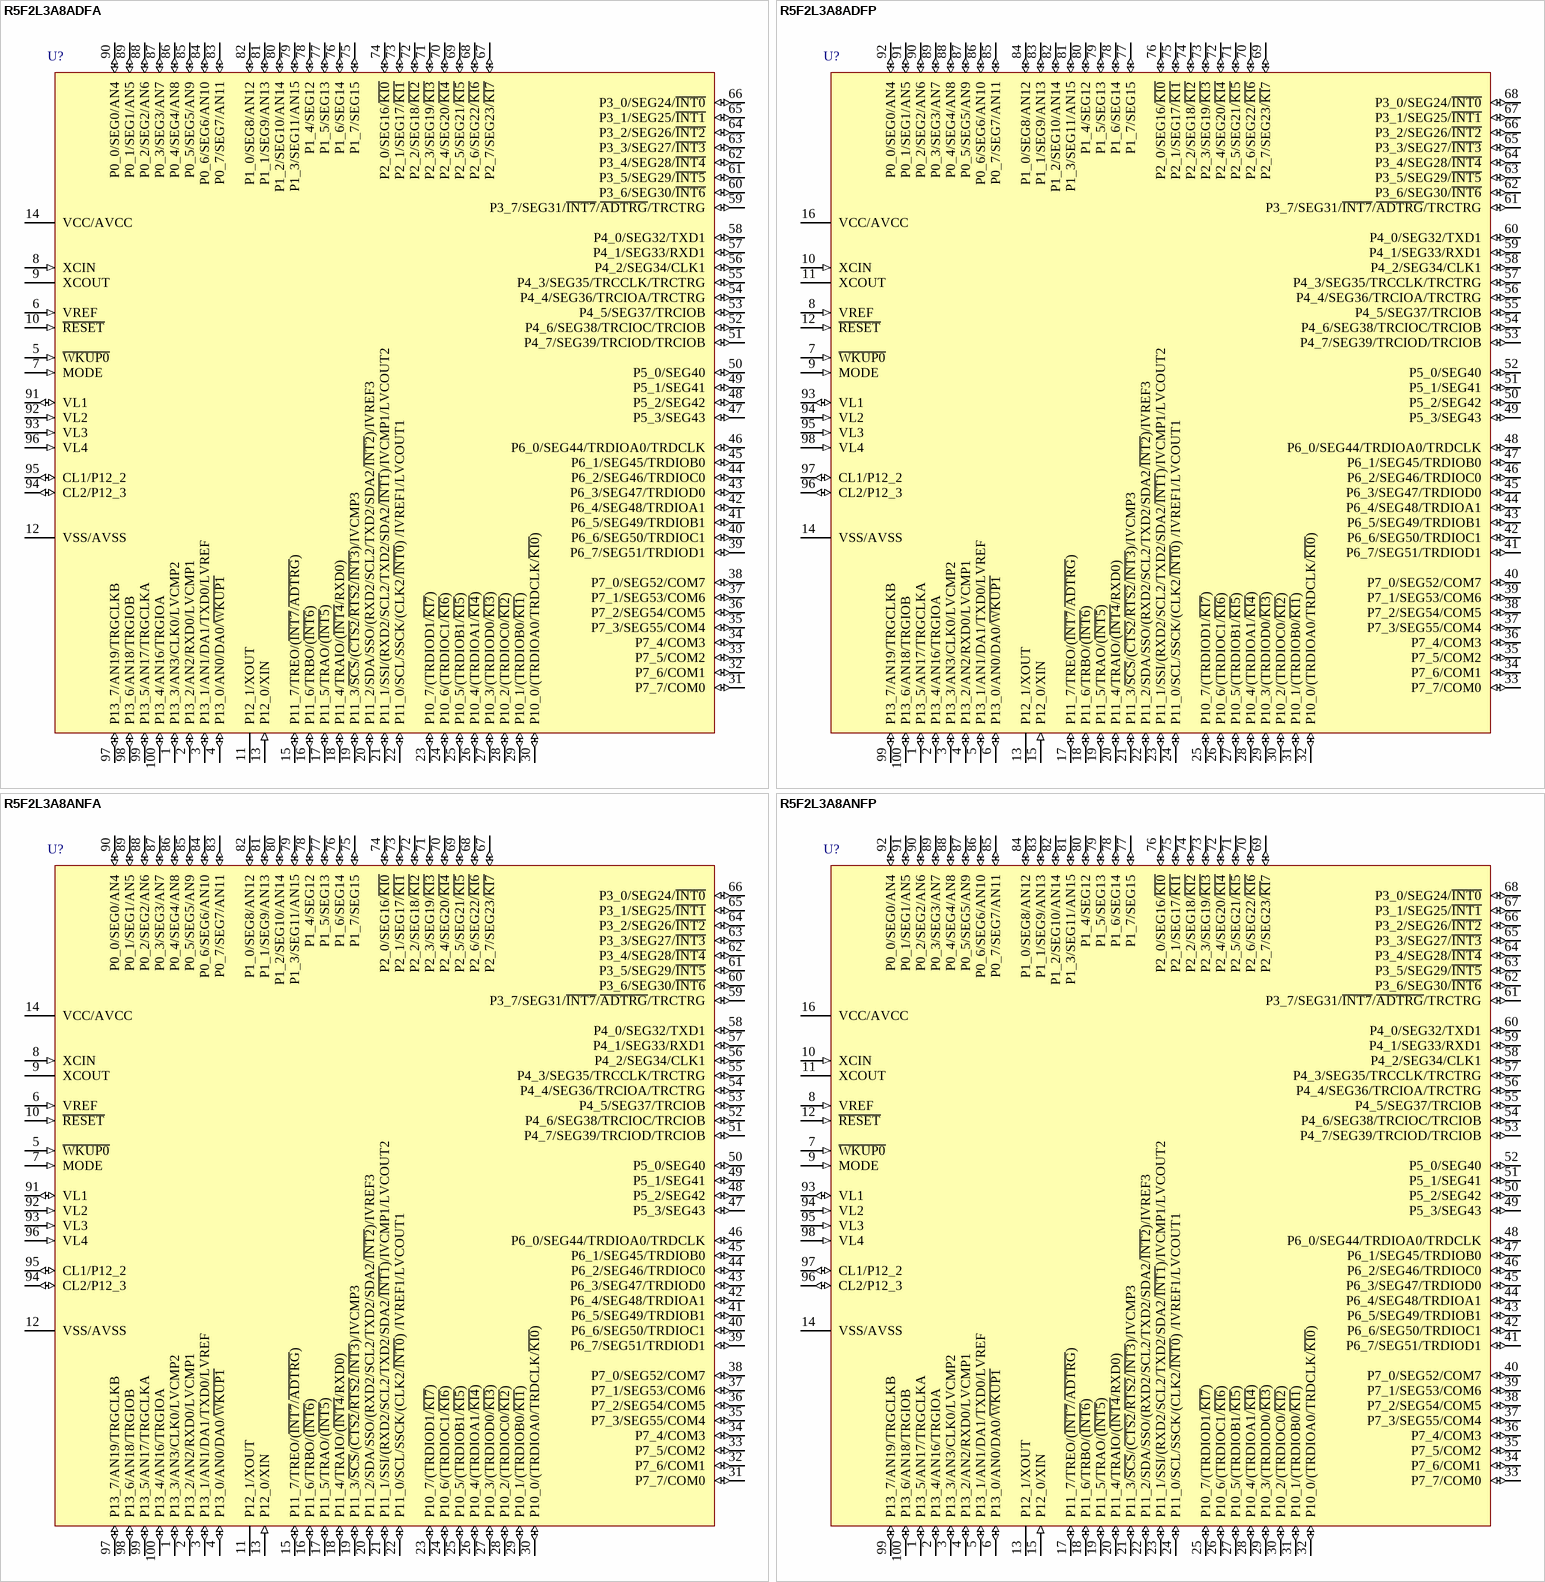
[diagram p3: symbols R5F2L3A8ADFA to R5F2L3A8ANFP]

## R5F2L3A8ADFA
designator U?
R8C/3AA Group Single Chip 16-Bit CMOS MCU, 64K ROM + 1K x4 Data Flash, 8K RAM, D Version; Published: 30-Oct-2009; DatasheetVersion: Rev.0.30, Jan-2009; PackageVersion: Nov-2006; PackageReference: PRQP0100JD-B; Publisher: Altium Limited; PackageDescription: 100-Pin Plastic Quad Flat Pack, 20 x 14 x 2.8 mm Body, 0.65 mm Pitch; Code_JEITA: P-QFP100-14x20-0.65; ComponentLink1Description: Manufacturer Link; ComponentLink1URL: http://sg.renesas.com/fmwk.jsp?cnt=r8c_family_landing.jsp&fp=/products/mpumcu/r8c_family/; ComponentLink2Description: Datasheet; ComponentLink2URL: http://documentation.renesas.com/eng/products/mpumcu/rej03b0243_r8cl35al35b_ds.pdf; ComponentLink3Description: Packaging Specification; ComponentLink3URL: http://sg.renesas.com/media/products/common_info/package/pdf/ic/code/prqp0100jd_b.pdf
footprint PRQP0100JD-B_N (QFP, 100-Leads, Body 20x14mm, Pitch 0.65mm, IPC Medium Density)
footprint PRQP0100JD-B_L (QFP, 100-Leads, Body 20x14mm, Pitch 0.65mm, IPC High Density)
footprint PRQP0100JD-B_M (QFP, 100-Leads, Body 20x14mm, Pitch 0.65mm, IPC Low Density)
pins: 1 P13_3/AN3/CLK0/LVCMP2 (io), 2 P13_2/AN2/RXD0/LVCMP1 (io), 3 P13_1/AN1/DA1/TXD0/LVREF (io), 4 P13_0/AN0/DA0/~{WKUP1} (io), 5 ~{WKUP0} (in), 6 VREF (in), 7 MODE (in), 8 XCIN (in), 9 XCOUT, 10 ~{RESET} (in), 11 P12_1/XOUT, 12 VSS/AVSS (power), 13 P12_0/XIN (in), 14 VCC/AVCC (power), 15 P11_7/TREO/(~{INT7}/~{ADTRG}) (io), 16 P11_6/TRBO/(~{INT6}) (io), 17 P11_5/TRAO/(~{INT5}) (io), 18 P11_4/TRAIO/(~{INT4}/RXD0) (io), 19 P11_3/~{SCS}/(~{CTS2}/~{RTS2}/~{INT3})/IVCMP3 (io), 20 P11_2/SDA/SSO/(RXD2/SCL2/TXD2/SDA2/~{INT2})/IVREF3 (io), 21 P11_1/SSI/(RXD2/SCL2/TXD2/SDA2/~{INT1})/IVCMP1/LVCOUT2 (io), 22 P11_0/SCL/SSCK/(CLK2/~{INT0}) /IVREF1/LVCOUT1 (io), 23 P10_7/(TRDIOD1/~{KI7}) (io), 24 P10_6/(TRDIOC1/~{KI6}) (io), 25 P10_5/(TRDIOB1/~{KI5}) (io), 26 P10_4/(TRDIOA1/~{KI4}) (io), 27 P10_3/(TRDIOD0/~{KI3}) (io), 28 P10_2/(TRDIOC0/~{KI2}) (io), 29 P10_1/(TRDIOB0/~{KI1}) (io), 30 P10_0/(TRDIOA0/TRDCLK/~{KI0}) (io), 31 P7_7/COM0 (io), 32 P7_6/COM1 (io), 33 P7_5/COM2 (io), 34 P7_4/COM3 (io), 35 P7_3/SEG55/COM4 (io), 36 P7_2/SEG54/COM5 (io), 37 P7_1/SEG53/COM6 (io), 38 P7_0/SEG52/COM7 (io), 39 P6_7/SEG51/TRDIOD1 (io), 40 P6_6/SEG50/TRDIOC1 (io), 41 P6_5/SEG49/TRDIOB1 (io), 42 P6_4/SEG48/TRDIOA1 (io), 43 P6_3/SEG47/TRDIOD0 (io), 44 P6_2/SEG46/TRDIOC0 (io), 45 P6_1/SEG45/TRDIOB0 (io), 46 P6_0/SEG44/TRDIOA0/TRDCLK (io), 47 P5_3/SEG43 (io), 48 P5_2/SEG42 (io), 49 P5_1/SEG41 (io), 50 P5_0/SEG40 (io), 51 P4_7/SEG39/TRCIOD/TRCIOB (io), 52 P4_6/SEG38/TRCIOC/TRCIOB (io), 53 P4_5/SEG37/TRCIOB (io), 54 P4_4/SEG36/TRCIOA/TRCTRG (io), 55 P4_3/SEG35/TRCCLK/TRCTRG (io), 56 P4_2/SEG34/CLK1 (io), 57 P4_1/SEG33/RXD1 (io), 58 P4_0/SEG32/TXD1 (io), 59 P3_7/SEG31/~{INT7}/~{ADTRG}/TRCTRG (io), 60 P3_6/SEG30/~{INT6} (io), 61 P3_5/SEG29/~{INT5} (io), 62 P3_4/SEG28/~{INT4} (io), 63 P3_3/SEG27/~{INT3} (io), 64 P3_2/SEG26/~{INT2} (io), 65 P3_1/SEG25/~{INT1} (io), 66 P3_0/SEG24/~{INT0} (io), 67 P2_7/SEG23/~{KI7} (io), 68 P2_6/SEG22/~{KI6} (io), 69 P2_5/SEG21/~{KI5} (io), 70 P2_4/SEG20/~{KI4} (io), 71 P2_3/SEG19/~{KI3} (io), 72 P2_2/SEG18/~{KI2} (io), 73 P2_1/SEG17/~{KI1} (io), 74 P2_0/SEG16/~{KI0} (io), 75 P1_7/SEG15 (io), 76 P1_6/SEG14 (io), 77 P1_5/SEG13 (io), 78 P1_4/SEG12 (io), 79 P1_3/SEG11/AN15 (io), 80 P1_2/SEG10/AN14 (io), 81 P1_1/SEG9/AN13 (io), 82 P1_0/SEG8/AN12 (io), 83 P0_7/SEG7/AN11 (io), 84 P0_6/SEG6/AN10 (io), 85 P0_5/SEG5/AN9 (io), 86 P0_4/SEG4/AN8 (io), 87 P0_3/SEG3/AN7 (io), 88 P0_2/SEG2/AN6 (io), 89 P0_1/SEG1/AN5 (io), 90 P0_0/SEG0/AN4 (io), 91 VL1 (io), 92 VL2 (in), 93 VL3 (in), 94 CL2/P12_3 (io), 95 CL1/P12_2 (io), 96 VL4 (in), 97 P13_7/AN19/TRGCLKB (io), 98 P13_6/AN18/TRGIOB (io), 99 P13_5/AN17/TRGCLKA (io), 100 P13_4/AN16/TRGIOA (io)